# Altium schematic symbol library MCU_ST_STM32F1.SchLib: 178 symbols (part 4 of 5)
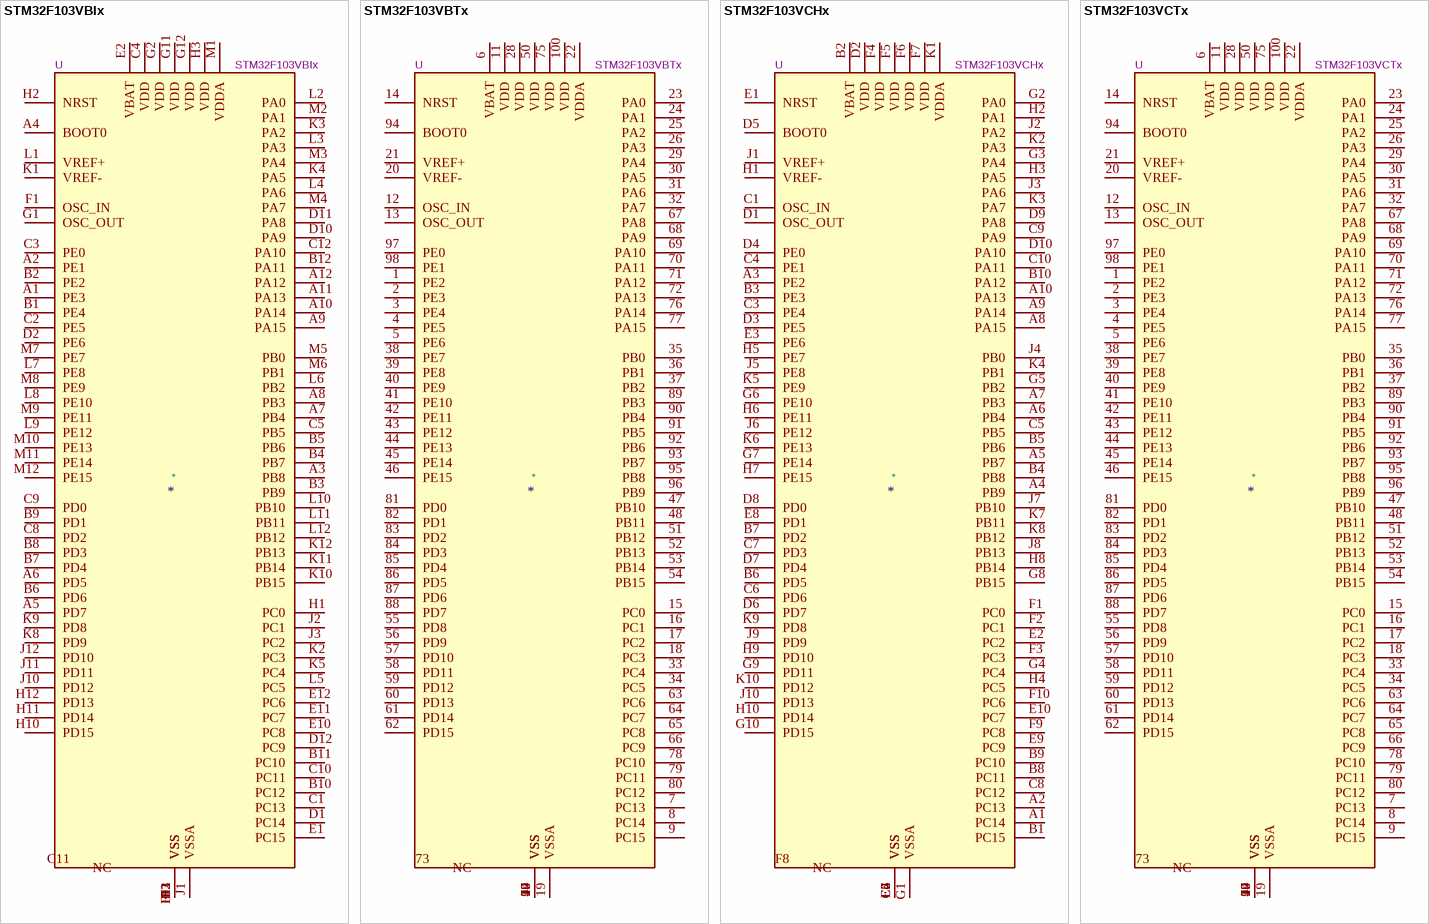
[diagram p33: symbols STM32F103VBIx to STM32F103VCTx]

## STM32F103VBIx
designator *  value STM32F103VBIx  Reference: U
STMicroelectronics Arm Cortex-M3 MCU, 128KB flash, 20KB RAM, 72 MHz, 2.0-3.6V, 80 GPIO, UFBGA100; ki_keywords: Arm Cortex-M3 STM32F1 STM32F103; ki_fp_filters: UFBGA*7x7mm*Layout12x12*P0.5mm*; Footprint: Package_BGA:UFBGA-100_7x7mm_Layout12x12_P0.5mm; Datasheet: https://www.st.com/resource/en/datasheet/stm32f103vb.pdf; Description_: STMicroelectronics Arm Cortex-M3 MCU, 128KB flash, 20KB RAM, 72 MHz, 2.0-3.6V, 80 GPIO, UFBGA100
pins: A1 PE3, A2 PE1, A3 PB8, A4 BOOT0, A5 PD7, A6 PD5, A7 PB4, A8 PB3, A9 PA15, A10 PA14, A11 PA13, A12 PA12, B1 PE4, B2 PE2, B3 PB9, B4 PB7, B5 PB6, B6 PD6, B7 PD4, B8 PD3, B9 PD1, B10 PC12, B11 PC10, B12 PA11, C1 PC13, C2 PE5, C3 PE0, C4 VDD, C5 PB5, C8 PD2, C9 PD0, C10 PC11, C11 NC, C12 PA10, D1 PC14, D2 PE6, D3 VSS, D10 PA9, D11 PA8, D12 PC9, E1 PC15, E2 VBAT, E3 VSS, E10 PC8, E11 PC7, E12 PC6, F1 OSC_IN, F2 VSS, F11 VSS, F12 VSS, G1 OSC_OUT, G2 VDD, G11 VDD, G12 VDD, H1 PC0, H2 NRST, H3 VDD, H10 PD15, H11 PD14, H12 PD13, J1 VSSA, J2 PC1, J3 PC2, J10 PD12, J11 PD11, J12 PD10, K1 VREF-, K2 PC3, K3 PA2, K4 PA5, K5 PC4, K8 PD9, K9 PD8, K10 PB15, K11 PB14, K12 PB13, L1 VREF+, L2 PA0, L3 PA3, L4 PA6, L5 PC5, L6 PB2, L7 PE8, L8 PE10, L9 PE12, L10 PB10, L11 PB11, L12 PB12, M1 VDDA, M2 PA1, M3 PA4, M4 PA7, M5 PB0, M6 PB1, M7 PE7, M8 PE9, M9 PE11, M10 PE13, M11 PE14, M12 PE15

## STM32F103VBTx
designator *  value STM32F103VBTx  Reference: U
STMicroelectronics Arm Cortex-M3 MCU, 128KB flash, 20KB RAM, 72 MHz, 2.0-3.6V, 80 GPIO, LQFP100; ki_keywords: Arm Cortex-M3 STM32F1 STM32F103; ki_fp_filters: LQFP*14x14mm*P0.5mm*; Footprint: Package_QFP:LQFP-100_14x14mm_P0.5mm; Datasheet: https://www.st.com/resource/en/datasheet/stm32f103vb.pdf; Description_: STMicroelectronics Arm Cortex-M3 MCU, 128KB flash, 20KB RAM, 72 MHz, 2.0-3.6V, 80 GPIO, LQFP100
pins: 1 PE2, 2 PE3, 3 PE4, 4 PE5, 5 PE6, 6 VBAT, 7 PC13, 8 PC14, 9 PC15, 10 VSS, 11 VDD, 12 OSC_IN, 13 OSC_OUT, 14 NRST, 15 PC0, 16 PC1, 17 PC2, 18 PC3, 19 VSSA, 20 VREF-, 21 VREF+, 22 VDDA, 23 PA0, 24 PA1, 25 PA2, 26 PA3, 27 VSS, 28 VDD, 29 PA4, 30 PA5, 31 PA6, 32 PA7, 33 PC4, 34 PC5, 35 PB0, 36 PB1, 37 PB2, 38 PE7, 39 PE8, 40 PE9, 41 PE10, 42 PE11, 43 PE12, 44 PE13, 45 PE14, 46 PE15, 47 PB10, 48 PB11, 49 VSS, 50 VDD, 51 PB12, 52 PB13, 53 PB14, 54 PB15, 55 PD8, 56 PD9, 57 PD10, 58 PD11, 59 PD12, 60 PD13, 61 PD14, 62 PD15, 63 PC6, 64 PC7, 65 PC8, 66 PC9, 67 PA8, 68 PA9, 69 PA10, 70 PA11, 71 PA12, 72 PA13, 73 NC, 74 VSS, 75 VDD, 76 PA14, 77 PA15, 78 PC10, 79 PC11, 80 PC12, 81 PD0, 82 PD1, 83 PD2, 84 PD3, 85 PD4, 86 PD5, 87 PD6, 88 PD7, 89 PB3, 90 PB4, 91 PB5, 92 PB6, 93 PB7, 94 BOOT0, 95 PB8, 96 PB9, 97 PE0, 98 PE1, 99 VSS, 100 VDD

## STM32F103VCHx
designator *  value STM32F103VCHx  Reference: U
STMicroelectronics Arm Cortex-M3 MCU, 256KB flash, 48KB RAM, 72 MHz, 2.0-3.6V, 80 GPIO, LFBGA100; ki_keywords: Arm Cortex-M3 STM32F1 STM32F103; ki_fp_filters: LFBGA*10x10mm*Layout10x10*P0.8mm*; Footprint: Package_BGA:LFBGA-100_10x10mm_Layout10x10_P0.8mm; Datasheet: https://www.st.com/resource/en/datasheet/stm32f103vc.pdf; Description_: STMicroelectronics Arm Cortex-M3 MCU, 256KB flash, 48KB RAM, 72 MHz, 2.0-3.6V, 80 GPIO, LFBGA100
pins: A1 PC14, A2 PC13, A3 PE2, A4 PB9, A5 PB7, A6 PB4, A7 PB3, A8 PA15, A9 PA14, A10 PA13, B1 PC15, B2 VBAT, B3 PE3, B4 PB8, B5 PB6, B6 PD5, B7 PD2, B8 PC11, B9 PC10, B10 PA12, C1 OSC_IN, C2 VSS, C3 PE4, C4 PE1, C5 PB5, C6 PD6, C7 PD3, C8 PC12, C9 PA9, C10 PA11, D1 OSC_OUT, D2 VDD, D3 PE5, D4 PE0, D5 BOOT0, D6 PD7, D7 PD4, D8 PD0, D9 PA8, D10 PA10, E1 NRST, E2 PC2, E3 PE6, E4 VSS, E5 VSS, E6 VSS, E7 VSS, E8 PD1, E9 PC9, E10 PC7, F1 PC0, F2 PC1, F3 PC3, F4 VDD, F5 VDD, F6 VDD, F7 VDD, F8 NC, F9 PC8, F10 PC6, G1 VSSA, G2 PA0, G3 PA4, G4 PC4, G5 PB2, G6 PE10, G7 PE14, G8 PB15, G9 PD11, G10 PD15, H1 VREF-, H2 PA1, H3 PA5, H4 PC5, H5 PE7, H6 PE11, H7 PE15, H8 PB14, H9 PD10, H10 PD14, J1 VREF+, J2 PA2, J3 PA6, J4 PB0, J5 PE8, J6 PE12, J7 PB10, J8 PB13, J9 PD9, J10 PD13, K1 VDDA, K2 PA3, K3 PA7, K4 PB1, K5 PE9, K6 PE13, K7 PB11, K8 PB12, K9 PD8, K10 PD12

## STM32F103VCTx
designator *  value STM32F103VCTx  Reference: U
STMicroelectronics Arm Cortex-M3 MCU, 256KB flash, 48KB RAM, 72 MHz, 2.0-3.6V, 80 GPIO, LQFP100; ki_keywords: Arm Cortex-M3 STM32F1 STM32F103; ki_fp_filters: LQFP*14x14mm*P0.5mm*; Footprint: Package_QFP:LQFP-100_14x14mm_P0.5mm; Datasheet: https://www.st.com/resource/en/datasheet/stm32f103vc.pdf; Description_: STMicroelectronics Arm Cortex-M3 MCU, 256KB flash, 48KB RAM, 72 MHz, 2.0-3.6V, 80 GPIO, LQFP100
pins: 1 PE2, 2 PE3, 3 PE4, 4 PE5, 5 PE6, 6 VBAT, 7 PC13, 8 PC14, 9 PC15, 10 VSS, 11 VDD, 12 OSC_IN, 13 OSC_OUT, 14 NRST, 15 PC0, 16 PC1, 17 PC2, 18 PC3, 19 VSSA, 20 VREF-, 21 VREF+, 22 VDDA, 23 PA0, 24 PA1, 25 PA2, 26 PA3, 27 VSS, 28 VDD, 29 PA4, 30 PA5, 31 PA6, 32 PA7, 33 PC4, 34 PC5, 35 PB0, 36 PB1, 37 PB2, 38 PE7, 39 PE8, 40 PE9, 41 PE10, 42 PE11, 43 PE12, 44 PE13, 45 PE14, 46 PE15, 47 PB10, 48 PB11, 49 VSS, 50 VDD, 51 PB12, 52 PB13, 53 PB14, 54 PB15, 55 PD8, 56 PD9, 57 PD10, 58 PD11, 59 PD12, 60 PD13, 61 PD14, 62 PD15, 63 PC6, 64 PC7, 65 PC8, 66 PC9, 67 PA8, 68 PA9, 69 PA10, 70 PA11, 71 PA12, 72 PA13, 73 NC, 74 VSS, 75 VDD, 76 PA14, 77 PA15, 78 PC10, 79 PC11, 80 PC12, 81 PD0, 82 PD1, 83 PD2, 84 PD3, 85 PD4, 86 PD5, 87 PD6, 88 PD7, 89 PB3, 90 PB4, 91 PB5, 92 PB6, 93 PB7, 94 BOOT0, 95 PB8, 96 PB9, 97 PE0, 98 PE1, 99 VSS, 100 VDD

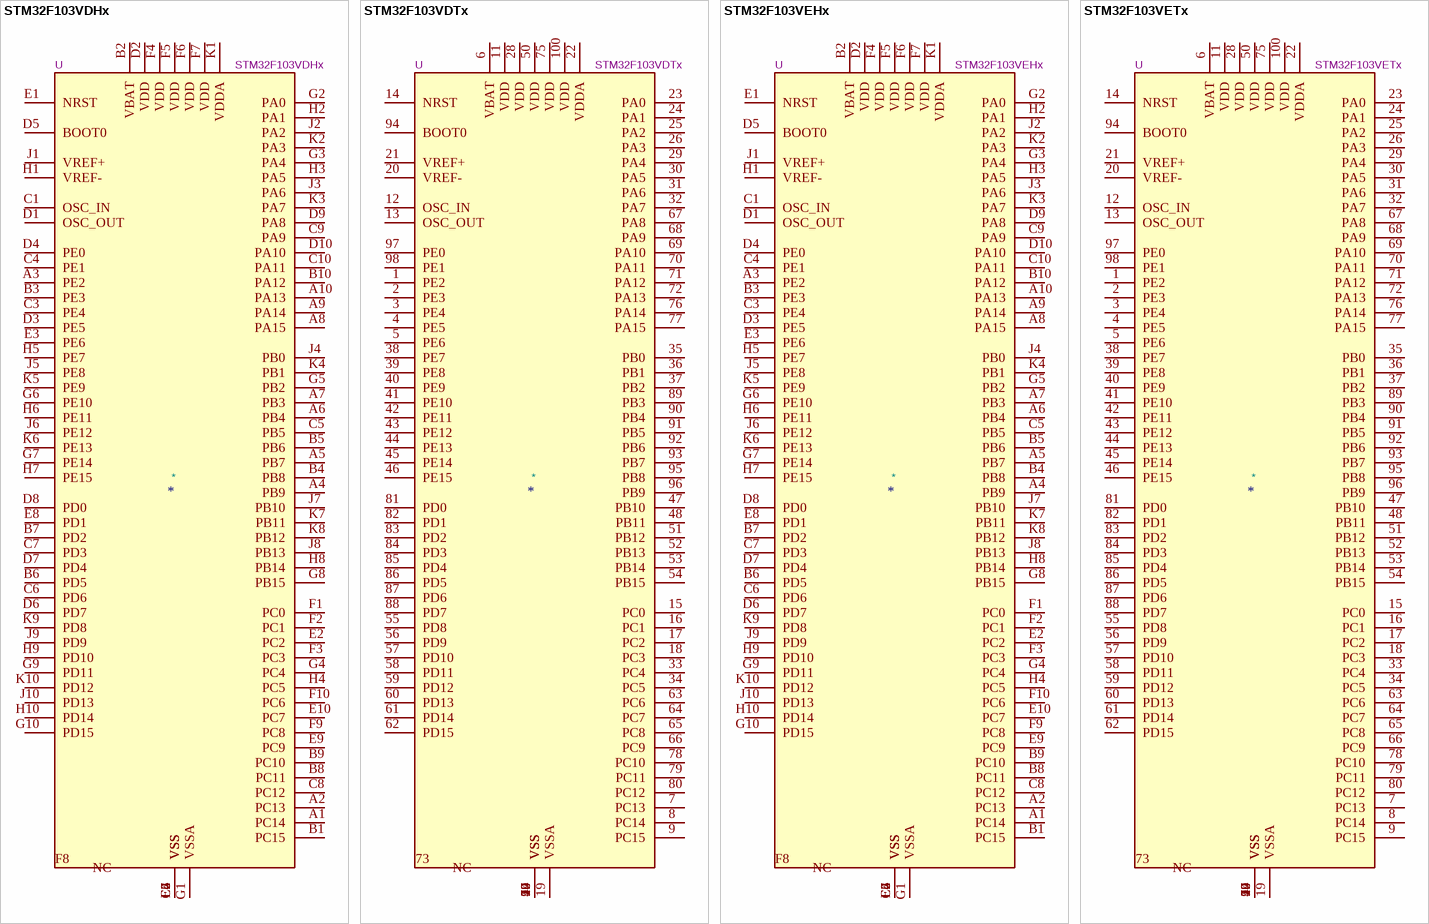
[diagram p21: symbols STM32F103VDHx to STM32F103VETx]

## STM32F103VDHx
designator *  value STM32F103VDHx  Reference: U
STMicroelectronics Arm Cortex-M3 MCU, 384KB flash, 64KB RAM, 72 MHz, 2.0-3.6V, 80 GPIO, LFBGA100; ki_keywords: Arm Cortex-M3 STM32F1 STM32F103; ki_fp_filters: LFBGA*10x10mm*Layout10x10*P0.8mm*; Footprint: Package_BGA:LFBGA-100_10x10mm_Layout10x10_P0.8mm; Datasheet: https://www.st.com/resource/en/datasheet/stm32f103vd.pdf; Description_: STMicroelectronics Arm Cortex-M3 MCU, 384KB flash, 64KB RAM, 72 MHz, 2.0-3.6V, 80 GPIO, LFBGA100
pins: A1 PC14, A2 PC13, A3 PE2, A4 PB9, A5 PB7, A6 PB4, A7 PB3, A8 PA15, A9 PA14, A10 PA13, B1 PC15, B2 VBAT, B3 PE3, B4 PB8, B5 PB6, B6 PD5, B7 PD2, B8 PC11, B9 PC10, B10 PA12, C1 OSC_IN, C2 VSS, C3 PE4, C4 PE1, C5 PB5, C6 PD6, C7 PD3, C8 PC12, C9 PA9, C10 PA11, D1 OSC_OUT, D2 VDD, D3 PE5, D4 PE0, D5 BOOT0, D6 PD7, D7 PD4, D8 PD0, D9 PA8, D10 PA10, E1 NRST, E2 PC2, E3 PE6, E4 VSS, E5 VSS, E6 VSS, E7 VSS, E8 PD1, E9 PC9, E10 PC7, F1 PC0, F2 PC1, F3 PC3, F4 VDD, F5 VDD, F6 VDD, F7 VDD, F8 NC, F9 PC8, F10 PC6, G1 VSSA, G2 PA0, G3 PA4, G4 PC4, G5 PB2, G6 PE10, G7 PE14, G8 PB15, G9 PD11, G10 PD15, H1 VREF-, H2 PA1, H3 PA5, H4 PC5, H5 PE7, H6 PE11, H7 PE15, H8 PB14, H9 PD10, H10 PD14, J1 VREF+, J2 PA2, J3 PA6, J4 PB0, J5 PE8, J6 PE12, J7 PB10, J8 PB13, J9 PD9, J10 PD13, K1 VDDA, K2 PA3, K3 PA7, K4 PB1, K5 PE9, K6 PE13, K7 PB11, K8 PB12, K9 PD8, K10 PD12

## STM32F103VDTx
designator *  value STM32F103VDTx  Reference: U
STMicroelectronics Arm Cortex-M3 MCU, 384KB flash, 64KB RAM, 72 MHz, 2.0-3.6V, 80 GPIO, LQFP100; ki_keywords: Arm Cortex-M3 STM32F1 STM32F103; ki_fp_filters: LQFP*14x14mm*P0.5mm*; Footprint: Package_QFP:LQFP-100_14x14mm_P0.5mm; Datasheet: https://www.st.com/resource/en/datasheet/stm32f103vd.pdf; Description_: STMicroelectronics Arm Cortex-M3 MCU, 384KB flash, 64KB RAM, 72 MHz, 2.0-3.6V, 80 GPIO, LQFP100
pins: 1 PE2, 2 PE3, 3 PE4, 4 PE5, 5 PE6, 6 VBAT, 7 PC13, 8 PC14, 9 PC15, 10 VSS, 11 VDD, 12 OSC_IN, 13 OSC_OUT, 14 NRST, 15 PC0, 16 PC1, 17 PC2, 18 PC3, 19 VSSA, 20 VREF-, 21 VREF+, 22 VDDA, 23 PA0, 24 PA1, 25 PA2, 26 PA3, 27 VSS, 28 VDD, 29 PA4, 30 PA5, 31 PA6, 32 PA7, 33 PC4, 34 PC5, 35 PB0, 36 PB1, 37 PB2, 38 PE7, 39 PE8, 40 PE9, 41 PE10, 42 PE11, 43 PE12, 44 PE13, 45 PE14, 46 PE15, 47 PB10, 48 PB11, 49 VSS, 50 VDD, 51 PB12, 52 PB13, 53 PB14, 54 PB15, 55 PD8, 56 PD9, 57 PD10, 58 PD11, 59 PD12, 60 PD13, 61 PD14, 62 PD15, 63 PC6, 64 PC7, 65 PC8, 66 PC9, 67 PA8, 68 PA9, 69 PA10, 70 PA11, 71 PA12, 72 PA13, 73 NC, 74 VSS, 75 VDD, 76 PA14, 77 PA15, 78 PC10, 79 PC11, 80 PC12, 81 PD0, 82 PD1, 83 PD2, 84 PD3, 85 PD4, 86 PD5, 87 PD6, 88 PD7, 89 PB3, 90 PB4, 91 PB5, 92 PB6, 93 PB7, 94 BOOT0, 95 PB8, 96 PB9, 97 PE0, 98 PE1, 99 VSS, 100 VDD

## STM32F103VEHx
designator *  value STM32F103VEHx  Reference: U
STMicroelectronics Arm Cortex-M3 MCU, 512KB flash, 64KB RAM, 72 MHz, 2.0-3.6V, 80 GPIO, LFBGA100; ki_keywords: Arm Cortex-M3 STM32F1 STM32F103; ki_fp_filters: LFBGA*10x10mm*Layout10x10*P0.8mm*; Footprint: Package_BGA:LFBGA-100_10x10mm_Layout10x10_P0.8mm; Datasheet: https://www.st.com/resource/en/datasheet/stm32f103ve.pdf; Description_: STMicroelectronics Arm Cortex-M3 MCU, 512KB flash, 64KB RAM, 72 MHz, 2.0-3.6V, 80 GPIO, LFBGA100
pins: A1 PC14, A2 PC13, A3 PE2, A4 PB9, A5 PB7, A6 PB4, A7 PB3, A8 PA15, A9 PA14, A10 PA13, B1 PC15, B2 VBAT, B3 PE3, B4 PB8, B5 PB6, B6 PD5, B7 PD2, B8 PC11, B9 PC10, B10 PA12, C1 OSC_IN, C2 VSS, C3 PE4, C4 PE1, C5 PB5, C6 PD6, C7 PD3, C8 PC12, C9 PA9, C10 PA11, D1 OSC_OUT, D2 VDD, D3 PE5, D4 PE0, D5 BOOT0, D6 PD7, D7 PD4, D8 PD0, D9 PA8, D10 PA10, E1 NRST, E2 PC2, E3 PE6, E4 VSS, E5 VSS, E6 VSS, E7 VSS, E8 PD1, E9 PC9, E10 PC7, F1 PC0, F2 PC1, F3 PC3, F4 VDD, F5 VDD, F6 VDD, F7 VDD, F8 NC, F9 PC8, F10 PC6, G1 VSSA, G2 PA0, G3 PA4, G4 PC4, G5 PB2, G6 PE10, G7 PE14, G8 PB15, G9 PD11, G10 PD15, H1 VREF-, H2 PA1, H3 PA5, H4 PC5, H5 PE7, H6 PE11, H7 PE15, H8 PB14, H9 PD10, H10 PD14, J1 VREF+, J2 PA2, J3 PA6, J4 PB0, J5 PE8, J6 PE12, J7 PB10, J8 PB13, J9 PD9, J10 PD13, K1 VDDA, K2 PA3, K3 PA7, K4 PB1, K5 PE9, K6 PE13, K7 PB11, K8 PB12, K9 PD8, K10 PD12

## STM32F103VETx
designator *  value STM32F103VETx  Reference: U
STMicroelectronics Arm Cortex-M3 MCU, 512KB flash, 64KB RAM, 72 MHz, 2.0-3.6V, 80 GPIO, LQFP100; ki_keywords: Arm Cortex-M3 STM32F1 STM32F103; ki_fp_filters: LQFP*14x14mm*P0.5mm*; Footprint: Package_QFP:LQFP-100_14x14mm_P0.5mm; Datasheet: https://www.st.com/resource/en/datasheet/stm32f103ve.pdf; Description_: STMicroelectronics Arm Cortex-M3 MCU, 512KB flash, 64KB RAM, 72 MHz, 2.0-3.6V, 80 GPIO, LQFP100
pins: 1 PE2, 2 PE3, 3 PE4, 4 PE5, 5 PE6, 6 VBAT, 7 PC13, 8 PC14, 9 PC15, 10 VSS, 11 VDD, 12 OSC_IN, 13 OSC_OUT, 14 NRST, 15 PC0, 16 PC1, 17 PC2, 18 PC3, 19 VSSA, 20 VREF-, 21 VREF+, 22 VDDA, 23 PA0, 24 PA1, 25 PA2, 26 PA3, 27 VSS, 28 VDD, 29 PA4, 30 PA5, 31 PA6, 32 PA7, 33 PC4, 34 PC5, 35 PB0, 36 PB1, 37 PB2, 38 PE7, 39 PE8, 40 PE9, 41 PE10, 42 PE11, 43 PE12, 44 PE13, 45 PE14, 46 PE15, 47 PB10, 48 PB11, 49 VSS, 50 VDD, 51 PB12, 52 PB13, 53 PB14, 54 PB15, 55 PD8, 56 PD9, 57 PD10, 58 PD11, 59 PD12, 60 PD13, 61 PD14, 62 PD15, 63 PC6, 64 PC7, 65 PC8, 66 PC9, 67 PA8, 68 PA9, 69 PA10, 70 PA11, 71 PA12, 72 PA13, 73 NC, 74 VSS, 75 VDD, 76 PA14, 77 PA15, 78 PC10, 79 PC11, 80 PC12, 81 PD0, 82 PD1, 83 PD2, 84 PD3, 85 PD4, 86 PD5, 87 PD6, 88 PD7, 89 PB3, 90 PB4, 91 PB5, 92 PB6, 93 PB7, 94 BOOT0, 95 PB8, 96 PB9, 97 PE0, 98 PE1, 99 VSS, 100 VDD

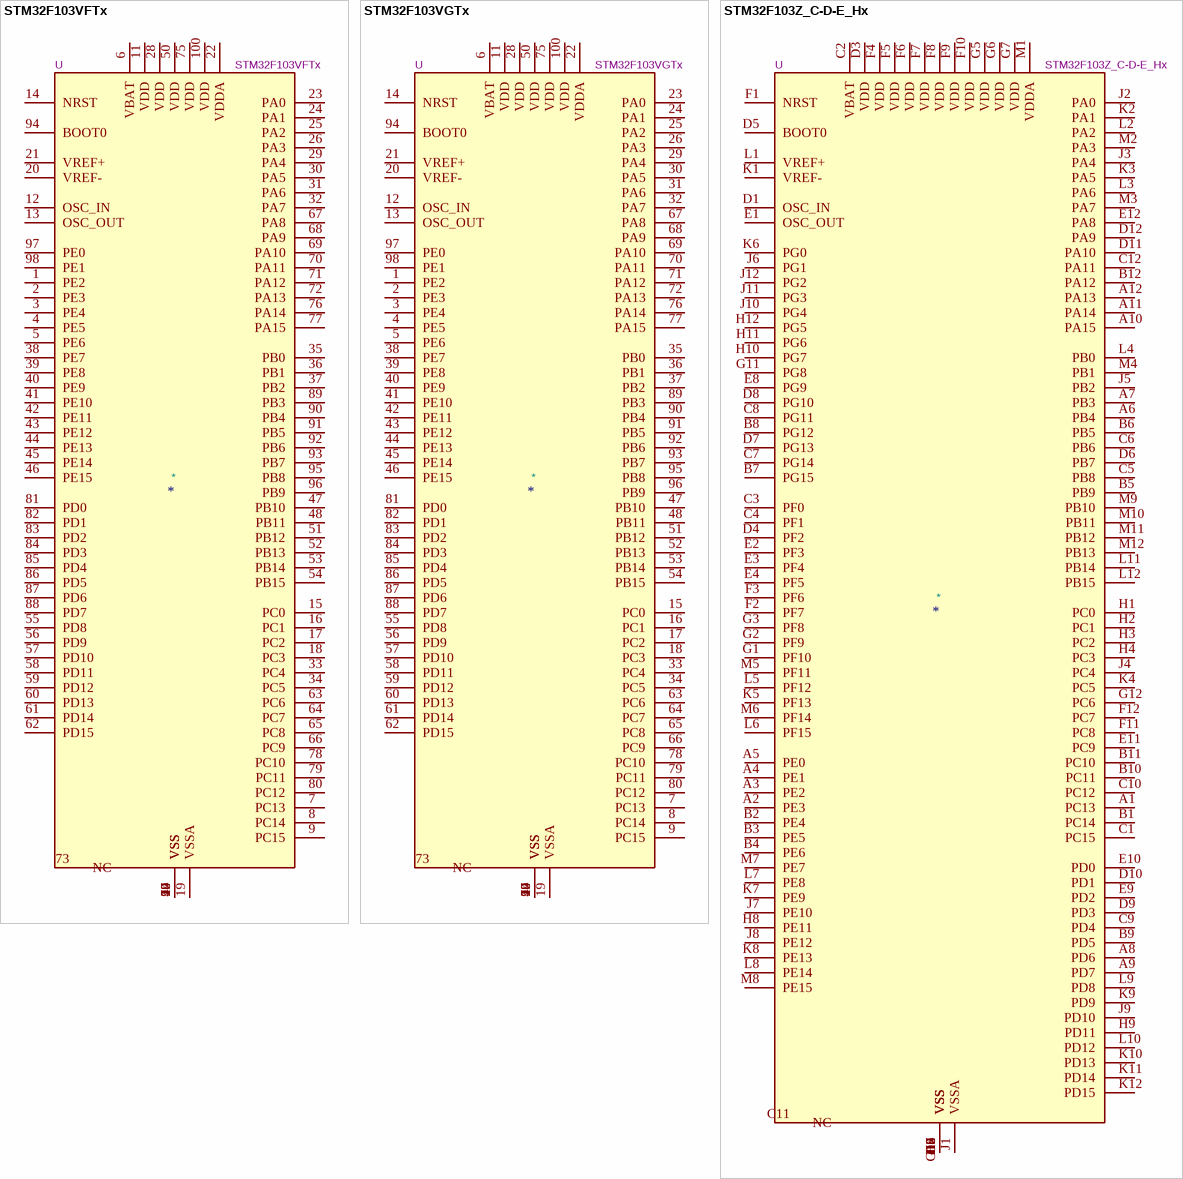
[diagram p22: symbols STM32F103VFTx to STM32F103Z_C-D-E_Hx]

## STM32F103VFTx
designator *  value STM32F103VFTx  Reference: U
STMicroelectronics Arm Cortex-M3 MCU, 768KB flash, 96KB RAM, 72 MHz, 2.0-3.6V, 80 GPIO, LQFP100; ki_keywords: Arm Cortex-M3 STM32F1 STM32F103; ki_fp_filters: LQFP*14x14mm*P0.5mm*; Footprint: Package_QFP:LQFP-100_14x14mm_P0.5mm; Datasheet: https://www.st.com/resource/en/datasheet/stm32f103vf.pdf; Description_: STMicroelectronics Arm Cortex-M3 MCU, 768KB flash, 96KB RAM, 72 MHz, 2.0-3.6V, 80 GPIO, LQFP100
pins: 1 PE2, 2 PE3, 3 PE4, 4 PE5, 5 PE6, 6 VBAT, 7 PC13, 8 PC14, 9 PC15, 10 VSS, 11 VDD, 12 OSC_IN, 13 OSC_OUT, 14 NRST, 15 PC0, 16 PC1, 17 PC2, 18 PC3, 19 VSSA, 20 VREF-, 21 VREF+, 22 VDDA, 23 PA0, 24 PA1, 25 PA2, 26 PA3, 27 VSS, 28 VDD, 29 PA4, 30 PA5, 31 PA6, 32 PA7, 33 PC4, 34 PC5, 35 PB0, 36 PB1, 37 PB2, 38 PE7, 39 PE8, 40 PE9, 41 PE10, 42 PE11, 43 PE12, 44 PE13, 45 PE14, 46 PE15, 47 PB10, 48 PB11, 49 VSS, 50 VDD, 51 PB12, 52 PB13, 53 PB14, 54 PB15, 55 PD8, 56 PD9, 57 PD10, 58 PD11, 59 PD12, 60 PD13, 61 PD14, 62 PD15, 63 PC6, 64 PC7, 65 PC8, 66 PC9, 67 PA8, 68 PA9, 69 PA10, 70 PA11, 71 PA12, 72 PA13, 73 NC, 74 VSS, 75 VDD, 76 PA14, 77 PA15, 78 PC10, 79 PC11, 80 PC12, 81 PD0, 82 PD1, 83 PD2, 84 PD3, 85 PD4, 86 PD5, 87 PD6, 88 PD7, 89 PB3, 90 PB4, 91 PB5, 92 PB6, 93 PB7, 94 BOOT0, 95 PB8, 96 PB9, 97 PE0, 98 PE1, 99 VSS, 100 VDD

## STM32F103VGTx
designator *  value STM32F103VGTx  Reference: U
STMicroelectronics Arm Cortex-M3 MCU, 1024KB flash, 96KB RAM, 72 MHz, 2.0-3.6V, 80 GPIO, LQFP100; ki_keywords: Arm Cortex-M3 STM32F1 STM32F103; ki_fp_filters: LQFP*14x14mm*P0.5mm*; Footprint: Package_QFP:LQFP-100_14x14mm_P0.5mm; Datasheet: https://www.st.com/resource/en/datasheet/stm32f103vg.pdf; Description_: STMicroelectronics Arm Cortex-M3 MCU, 1024KB flash, 96KB RAM, 72 MHz, 2.0-3.6V, 80 GPIO, LQFP100
pins: 1 PE2, 2 PE3, 3 PE4, 4 PE5, 5 PE6, 6 VBAT, 7 PC13, 8 PC14, 9 PC15, 10 VSS, 11 VDD, 12 OSC_IN, 13 OSC_OUT, 14 NRST, 15 PC0, 16 PC1, 17 PC2, 18 PC3, 19 VSSA, 20 VREF-, 21 VREF+, 22 VDDA, 23 PA0, 24 PA1, 25 PA2, 26 PA3, 27 VSS, 28 VDD, 29 PA4, 30 PA5, 31 PA6, 32 PA7, 33 PC4, 34 PC5, 35 PB0, 36 PB1, 37 PB2, 38 PE7, 39 PE8, 40 PE9, 41 PE10, 42 PE11, 43 PE12, 44 PE13, 45 PE14, 46 PE15, 47 PB10, 48 PB11, 49 VSS, 50 VDD, 51 PB12, 52 PB13, 53 PB14, 54 PB15, 55 PD8, 56 PD9, 57 PD10, 58 PD11, 59 PD12, 60 PD13, 61 PD14, 62 PD15, 63 PC6, 64 PC7, 65 PC8, 66 PC9, 67 PA8, 68 PA9, 69 PA10, 70 PA11, 71 PA12, 72 PA13, 73 NC, 74 VSS, 75 VDD, 76 PA14, 77 PA15, 78 PC10, 79 PC11, 80 PC12, 81 PD0, 82 PD1, 83 PD2, 84 PD3, 85 PD4, 86 PD5, 87 PD6, 88 PD7, 89 PB3, 90 PB4, 91 PB5, 92 PB6, 93 PB7, 94 BOOT0, 95 PB8, 96 PB9, 97 PE0, 98 PE1, 99 VSS, 100 VDD

## STM32F103Z_C-D-E_Hx
designator *  value STM32F103Z_C-D-E_Hx  Reference: U
STMicroelectronics Arm Cortex-M3 MCU, 256-512KB flash, 48-64KB RAM, 72 MHz, 2.0-3.6V, 112 GPIO, LFBGA144; ki_keywords: Arm Cortex-M3 STM32F1 STM32F103; ki_fp_filters: LFBGA*10x10mm*Layout12x12*P0.8mm*; Footprint: Package_BGA:LFBGA-144_10x10mm_Layout12x12_P0.8mm; Datasheet: https://www.st.com/resource/en/datasheet/stm32f103zc.pdf; Description_: STMicroelectronics Arm Cortex-M3 MCU, 256-512KB flash, 48-64KB RAM, 72 MHz, 2.0-3.6V, 112 GPIO, LFBGA144
pins: A1 PC13, A2 PE3, A3 PE2, A4 PE1, A5 PE0, A6 PB4, A7 PB3, A8 PD6, A9 PD7, A10 PA15, A11 PA14, A12 PA13, B1 PC14, B2 PE4, B3 PE5, B4 PE6, B5 PB9, B6 PB5, B7 PG15, B8 PG12, B9 PD5, B10 PC11, B11 PC10, B12 PA12, C1 PC15, C2 VBAT, C3 PF0, C4 PF1, C5 PB8, C6 PB6, C7 PG14, C8 PG11, C9 PD4, C10 PC12, C11 NC, C12 PA11, D1 OSC_IN, D2 VSS, D3 VDD, D4 PF2, D5 BOOT0, D6 PB7, D7 PG13, D8 PG10, D9 PD3, D10 PD1, D11 PA10, D12 PA9, E1 OSC_OUT, E2 PF3, E3 PF4, E4 PF5, E5 VSS, E6 VSS, E7 VSS, E8 PG9, E9 PD2, E10 PD0, E11 PC9, E12 PA8, F1 NRST, F2 PF7, F3 PF6, F4 VDD, F5 VDD, F6 VDD, F7 VDD, F8 VDD, F9 VDD, F10 VDD, F11 PC8, F12 PC7, G1 PF10, G2 PF9, G3 PF8, G4 VSS, G5 VDD, G6 VDD, G7 VDD, G8 VSS, G9 VSS, G10 VSS, G11 PG8, G12 PC6, H1 PC0, H2 PC1, H3 PC2, H4 PC3, H5 VSS, H6 VSS, H7 VSS, H8 PE11, H9 PD11, H10 PG7, H11 PG6, H12 PG5, J1 VSSA, J2 PA0, J3 PA4, J4 PC4, J5 PB2, J6 PG1, J7 PE10, J8 PE12, J9 PD10, J10 PG4, J11 PG3, J12 PG2, K1 VREF-, K2 PA1, K3 PA5, K4 PC5, K5 PF13, K6 PG0, K7 PE9, K8 PE13, K9 PD9, K10 PD13, K11 PD14, K12 PD15, L1 VREF+, L2 PA2, L3 PA6, L4 PB0, L5 PF12, L6 PF15, L7 PE8, L8 PE14, L9 PD8, L10 PD12, L11 PB14, L12 PB15, M1 VDDA, M2 PA3, M3 PA7, M4 PB1, M5 PF11, M6 PF14, M7 PE7, M8 PE15, M9 PB10, M10 PB11, M11 PB12, M12 PB13

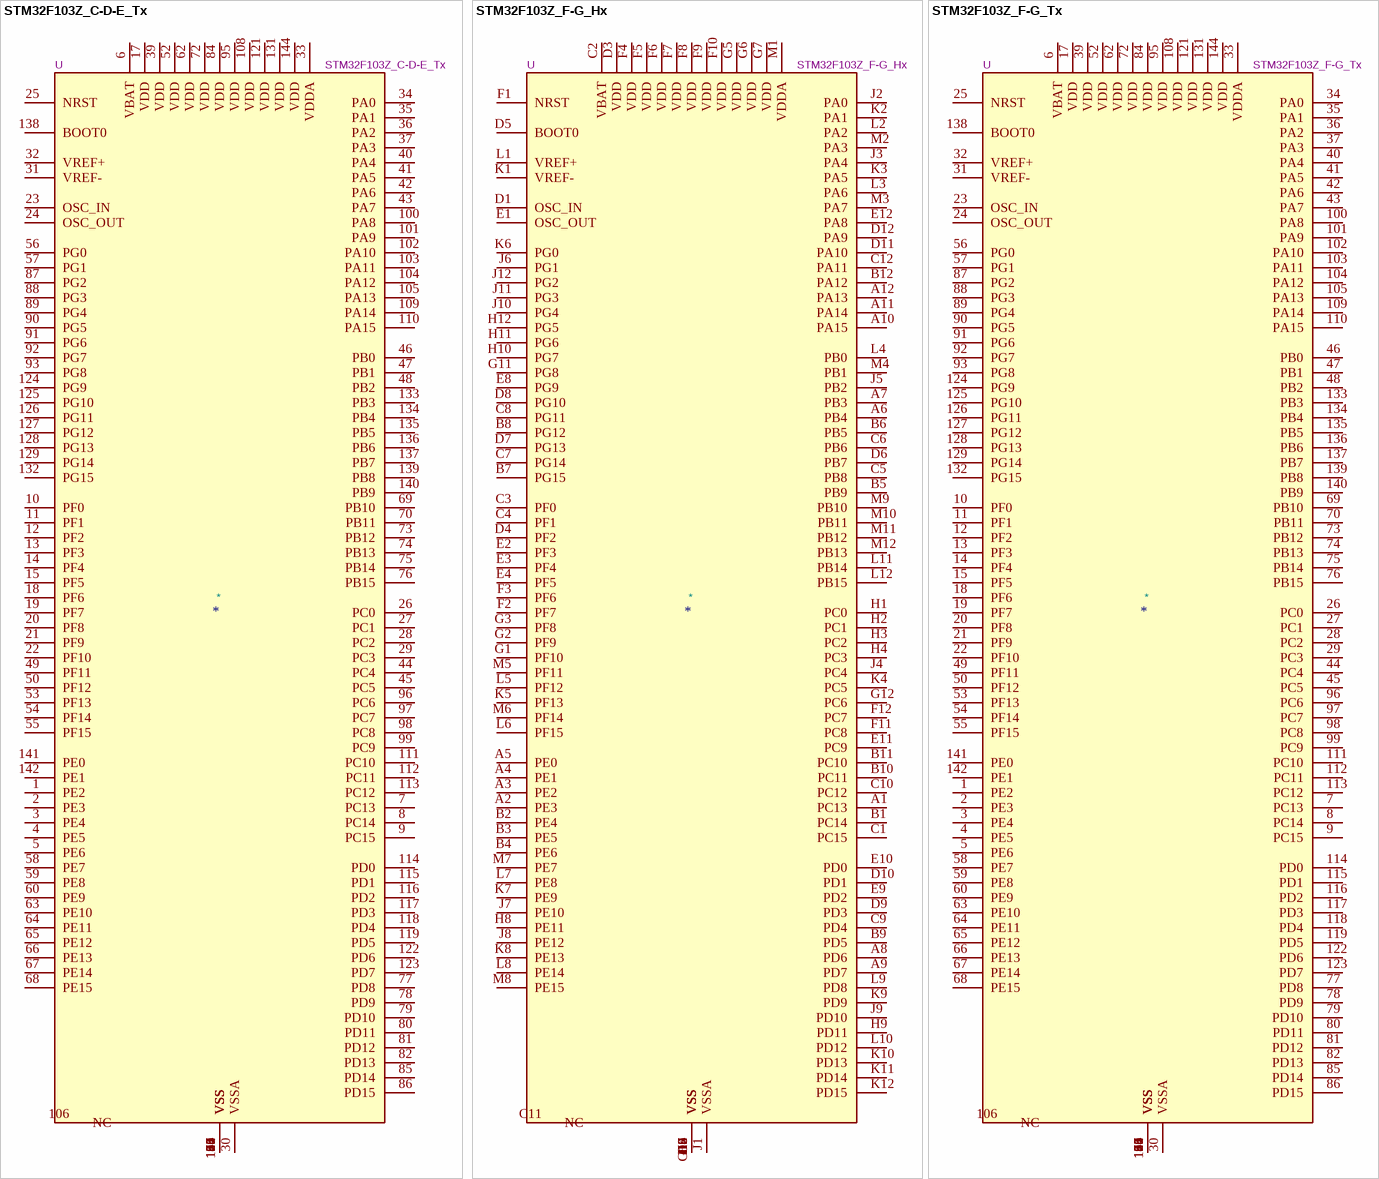
[diagram p23: symbols STM32F103Z_C-D-E_Tx to STM32F103Z_F-G_Tx]

## STM32F103Z_C-D-E_Tx
designator *  value STM32F103Z_C-D-E_Tx  Reference: U
STMicroelectronics Arm Cortex-M3 MCU, 256-512KB flash, 48-64KB RAM, 72 MHz, 2.0-3.6V, 112 GPIO, LQFP144; ki_keywords: Arm Cortex-M3 STM32F1 STM32F103; ki_fp_filters: LQFP*20x20mm*P0.5mm*; Footprint: Package_QFP:LQFP-144_20x20mm_P0.5mm; Datasheet: https://www.st.com/resource/en/datasheet/stm32f103zc.pdf; Description_: STMicroelectronics Arm Cortex-M3 MCU, 256-512KB flash, 48-64KB RAM, 72 MHz, 2.0-3.6V, 112 GPIO, LQFP144
pins: 1 PE2, 2 PE3, 3 PE4, 4 PE5, 5 PE6, 6 VBAT, 7 PC13, 8 PC14, 9 PC15, 10 PF0, 11 PF1, 12 PF2, 13 PF3, 14 PF4, 15 PF5, 16 VSS, 17 VDD, 18 PF6, 19 PF7, 20 PF8, 21 PF9, 22 PF10, 23 OSC_IN, 24 OSC_OUT, 25 NRST, 26 PC0, 27 PC1, 28 PC2, 29 PC3, 30 VSSA, 31 VREF-, 32 VREF+, 33 VDDA, 34 PA0, 35 PA1, 36 PA2, 37 PA3, 38 VSS, 39 VDD, 40 PA4, 41 PA5, 42 PA6, 43 PA7, 44 PC4, 45 PC5, 46 PB0, 47 PB1, 48 PB2, 49 PF11, 50 PF12, 51 VSS, 52 VDD, 53 PF13, 54 PF14, 55 PF15, 56 PG0, 57 PG1, 58 PE7, 59 PE8, 60 PE9, 61 VSS, 62 VDD, 63 PE10, 64 PE11, 65 PE12, 66 PE13, 67 PE14, 68 PE15, 69 PB10, 70 PB11, 71 VSS, 72 VDD, 73 PB12, 74 PB13, 75 PB14, 76 PB15, 77 PD8, 78 PD9, 79 PD10, 80 PD11, 81 PD12, 82 PD13, 83 VSS, 84 VDD, 85 PD14, 86 PD15, 87 PG2, 88 PG3, 89 PG4, 90 PG5, 91 PG6, 92 PG7, 93 PG8, 94 VSS, 95 VDD, 96 PC6, 97 PC7, 98 PC8, 99 PC9, 100 PA8, 101 PA9, 102 PA10, 103 PA11, 104 PA12, 105 PA13, 106 NC, 107 VSS, 108 VDD, 109 PA14, 110 PA15, 111 PC10, 112 PC11, 113 PC12, 114 PD0, 115 PD1, 116 PD2, 117 PD3, 118 PD4, 119 PD5, 120 VSS, 121 VDD, 122 PD6, 123 PD7, 124 PG9, 125 PG10, 126 PG11, 127 PG12, 128 PG13, 129 PG14, 130 VSS, 131 VDD, 132 PG15, 133 PB3, 134 PB4, 135 PB5, 136 PB6, 137 PB7, 138 BOOT0, 139 PB8, 140 PB9, 141 PE0, 142 PE1, 143 VSS, 144 VDD

## STM32F103Z_F-G_Hx
designator *  value STM32F103Z_F-G_Hx  Reference: U
STMicroelectronics Arm Cortex-M3 MCU, 768-1024KB flash, 96KB RAM, 72 MHz, 2.0-3.6V, 112 GPIO, LFBGA144; ki_keywords: Arm Cortex-M3 STM32F1 STM32F103; ki_fp_filters: LFBGA*10x10mm*Layout12x12*P0.8mm*; Footprint: Package_BGA:LFBGA-144_10x10mm_Layout12x12_P0.8mm; Datasheet: https://www.st.com/resource/en/datasheet/stm32f103zf.pdf; Description_: STMicroelectronics Arm Cortex-M3 MCU, 768-1024KB flash, 96KB RAM, 72 MHz, 2.0-3.6V, 112 GPIO, LFBGA144
pins: A1 PC13, A2 PE3, A3 PE2, A4 PE1, A5 PE0, A6 PB4, A7 PB3, A8 PD6, A9 PD7, A10 PA15, A11 PA14, A12 PA13, B1 PC14, B2 PE4, B3 PE5, B4 PE6, B5 PB9, B6 PB5, B7 PG15, B8 PG12, B9 PD5, B10 PC11, B11 PC10, B12 PA12, C1 PC15, C2 VBAT, C3 PF0, C4 PF1, C5 PB8, C6 PB6, C7 PG14, C8 PG11, C9 PD4, C10 PC12, C11 NC, C12 PA11, D1 OSC_IN, D2 VSS, D3 VDD, D4 PF2, D5 BOOT0, D6 PB7, D7 PG13, D8 PG10, D9 PD3, D10 PD1, D11 PA10, D12 PA9, E1 OSC_OUT, E2 PF3, E3 PF4, E4 PF5, E5 VSS, E6 VSS, E7 VSS, E8 PG9, E9 PD2, E10 PD0, E11 PC9, E12 PA8, F1 NRST, F2 PF7, F3 PF6, F4 VDD, F5 VDD, F6 VDD, F7 VDD, F8 VDD, F9 VDD, F10 VDD, F11 PC8, F12 PC7, G1 PF10, G2 PF9, G3 PF8, G4 VSS, G5 VDD, G6 VDD, G7 VDD, G8 VSS, G9 VSS, G10 VSS, G11 PG8, G12 PC6, H1 PC0, H2 PC1, H3 PC2, H4 PC3, H5 VSS, H6 VSS, H7 VSS, H8 PE11, H9 PD11, H10 PG7, H11 PG6, H12 PG5, J1 VSSA, J2 PA0, J3 PA4, J4 PC4, J5 PB2, J6 PG1, J7 PE10, J8 PE12, J9 PD10, J10 PG4, J11 PG3, J12 PG2, K1 VREF-, K2 PA1, K3 PA5, K4 PC5, K5 PF13, K6 PG0, K7 PE9, K8 PE13, K9 PD9, K10 PD13, K11 PD14, K12 PD15, L1 VREF+, L2 PA2, L3 PA6, L4 PB0, L5 PF12, L6 PF15, L7 PE8, L8 PE14, L9 PD8, L10 PD12, L11 PB14, L12 PB15, M1 VDDA, M2 PA3, M3 PA7, M4 PB1, M5 PF11, M6 PF14, M7 PE7, M8 PE15, M9 PB10, M10 PB11, M11 PB12, M12 PB13

## STM32F103Z_F-G_Tx
designator *  value STM32F103Z_F-G_Tx  Reference: U
STMicroelectronics Arm Cortex-M3 MCU, 768-1024KB flash, 96KB RAM, 72 MHz, 2.0-3.6V, 112 GPIO, LQFP144; ki_keywords: Arm Cortex-M3 STM32F1 STM32F103; ki_fp_filters: LQFP*20x20mm*P0.5mm*; Footprint: Package_QFP:LQFP-144_20x20mm_P0.5mm; Datasheet: https://www.st.com/resource/en/datasheet/stm32f103zf.pdf; Description_: STMicroelectronics Arm Cortex-M3 MCU, 768-1024KB flash, 96KB RAM, 72 MHz, 2.0-3.6V, 112 GPIO, LQFP144
pins: 1 PE2, 2 PE3, 3 PE4, 4 PE5, 5 PE6, 6 VBAT, 7 PC13, 8 PC14, 9 PC15, 10 PF0, 11 PF1, 12 PF2, 13 PF3, 14 PF4, 15 PF5, 16 VSS, 17 VDD, 18 PF6, 19 PF7, 20 PF8, 21 PF9, 22 PF10, 23 OSC_IN, 24 OSC_OUT, 25 NRST, 26 PC0, 27 PC1, 28 PC2, 29 PC3, 30 VSSA, 31 VREF-, 32 VREF+, 33 VDDA, 34 PA0, 35 PA1, 36 PA2, 37 PA3, 38 VSS, 39 VDD, 40 PA4, 41 PA5, 42 PA6, 43 PA7, 44 PC4, 45 PC5, 46 PB0, 47 PB1, 48 PB2, 49 PF11, 50 PF12, 51 VSS, 52 VDD, 53 PF13, 54 PF14, 55 PF15, 56 PG0, 57 PG1, 58 PE7, 59 PE8, 60 PE9, 61 VSS, 62 VDD, 63 PE10, 64 PE11, 65 PE12, 66 PE13, 67 PE14, 68 PE15, 69 PB10, 70 PB11, 71 VSS, 72 VDD, 73 PB12, 74 PB13, 75 PB14, 76 PB15, 77 PD8, 78 PD9, 79 PD10, 80 PD11, 81 PD12, 82 PD13, 83 VSS, 84 VDD, 85 PD14, 86 PD15, 87 PG2, 88 PG3, 89 PG4, 90 PG5, 91 PG6, 92 PG7, 93 PG8, 94 VSS, 95 VDD, 96 PC6, 97 PC7, 98 PC8, 99 PC9, 100 PA8, 101 PA9, 102 PA10, 103 PA11, 104 PA12, 105 PA13, 106 NC, 107 VSS, 108 VDD, 109 PA14, 110 PA15, 111 PC10, 112 PC11, 113 PC12, 114 PD0, 115 PD1, 116 PD2, 117 PD3, 118 PD4, 119 PD5, 120 VSS, 121 VDD, 122 PD6, 123 PD7, 124 PG9, 125 PG10, 126 PG11, 127 PG12, 128 PG13, 129 PG14, 130 VSS, 131 VDD, 132 PG15, 133 PB3, 134 PB4, 135 PB5, 136 PB6, 137 PB7, 138 BOOT0, 139 PB8, 140 PB9, 141 PE0, 142 PE1, 143 VSS, 144 VDD

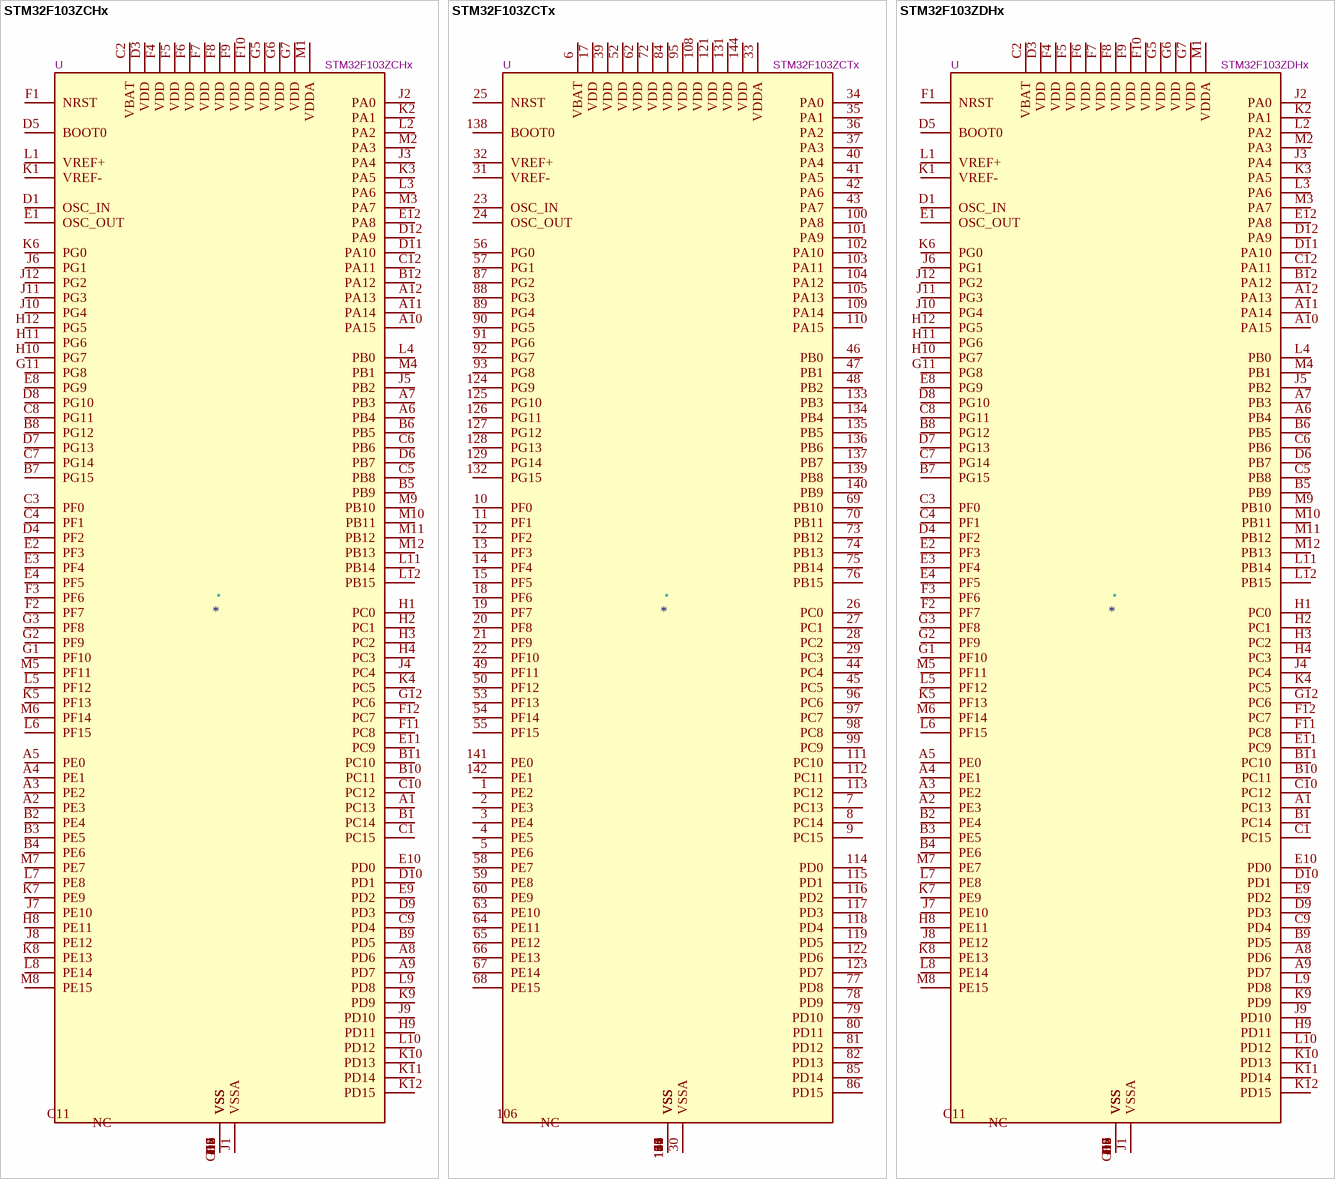
[diagram p24: symbols STM32F103ZCHx to STM32F103ZDHx]

## STM32F103ZCHx
designator *  value STM32F103ZCHx  Reference: U
STMicroelectronics Arm Cortex-M3 MCU, 256KB flash, 48KB RAM, 72 MHz, 2.0-3.6V, 112 GPIO, LFBGA144; ki_keywords: Arm Cortex-M3 STM32F1 STM32F103; ki_fp_filters: LFBGA*10x10mm*Layout12x12*P0.8mm*; Footprint: Package_BGA:LFBGA-144_10x10mm_Layout12x12_P0.8mm; Datasheet: https://www.st.com/resource/en/datasheet/stm32f103zc.pdf; Description_: STMicroelectronics Arm Cortex-M3 MCU, 256KB flash, 48KB RAM, 72 MHz, 2.0-3.6V, 112 GPIO, LFBGA144
pins: A1 PC13, A2 PE3, A3 PE2, A4 PE1, A5 PE0, A6 PB4, A7 PB3, A8 PD6, A9 PD7, A10 PA15, A11 PA14, A12 PA13, B1 PC14, B2 PE4, B3 PE5, B4 PE6, B5 PB9, B6 PB5, B7 PG15, B8 PG12, B9 PD5, B10 PC11, B11 PC10, B12 PA12, C1 PC15, C2 VBAT, C3 PF0, C4 PF1, C5 PB8, C6 PB6, C7 PG14, C8 PG11, C9 PD4, C10 PC12, C11 NC, C12 PA11, D1 OSC_IN, D2 VSS, D3 VDD, D4 PF2, D5 BOOT0, D6 PB7, D7 PG13, D8 PG10, D9 PD3, D10 PD1, D11 PA10, D12 PA9, E1 OSC_OUT, E2 PF3, E3 PF4, E4 PF5, E5 VSS, E6 VSS, E7 VSS, E8 PG9, E9 PD2, E10 PD0, E11 PC9, E12 PA8, F1 NRST, F2 PF7, F3 PF6, F4 VDD, F5 VDD, F6 VDD, F7 VDD, F8 VDD, F9 VDD, F10 VDD, F11 PC8, F12 PC7, G1 PF10, G2 PF9, G3 PF8, G4 VSS, G5 VDD, G6 VDD, G7 VDD, G8 VSS, G9 VSS, G10 VSS, G11 PG8, G12 PC6, H1 PC0, H2 PC1, H3 PC2, H4 PC3, H5 VSS, H6 VSS, H7 VSS, H8 PE11, H9 PD11, H10 PG7, H11 PG6, H12 PG5, J1 VSSA, J2 PA0, J3 PA4, J4 PC4, J5 PB2, J6 PG1, J7 PE10, J8 PE12, J9 PD10, J10 PG4, J11 PG3, J12 PG2, K1 VREF-, K2 PA1, K3 PA5, K4 PC5, K5 PF13, K6 PG0, K7 PE9, K8 PE13, K9 PD9, K10 PD13, K11 PD14, K12 PD15, L1 VREF+, L2 PA2, L3 PA6, L4 PB0, L5 PF12, L6 PF15, L7 PE8, L8 PE14, L9 PD8, L10 PD12, L11 PB14, L12 PB15, M1 VDDA, M2 PA3, M3 PA7, M4 PB1, M5 PF11, M6 PF14, M7 PE7, M8 PE15, M9 PB10, M10 PB11, M11 PB12, M12 PB13

## STM32F103ZCTx
designator *  value STM32F103ZCTx  Reference: U
STMicroelectronics Arm Cortex-M3 MCU, 256KB flash, 48KB RAM, 72 MHz, 2.0-3.6V, 112 GPIO, LQFP144; ki_keywords: Arm Cortex-M3 STM32F1 STM32F103; ki_fp_filters: LQFP*20x20mm*P0.5mm*; Footprint: Package_QFP:LQFP-144_20x20mm_P0.5mm; Datasheet: https://www.st.com/resource/en/datasheet/stm32f103zc.pdf; Description_: STMicroelectronics Arm Cortex-M3 MCU, 256KB flash, 48KB RAM, 72 MHz, 2.0-3.6V, 112 GPIO, LQFP144
pins: 1 PE2, 2 PE3, 3 PE4, 4 PE5, 5 PE6, 6 VBAT, 7 PC13, 8 PC14, 9 PC15, 10 PF0, 11 PF1, 12 PF2, 13 PF3, 14 PF4, 15 PF5, 16 VSS, 17 VDD, 18 PF6, 19 PF7, 20 PF8, 21 PF9, 22 PF10, 23 OSC_IN, 24 OSC_OUT, 25 NRST, 26 PC0, 27 PC1, 28 PC2, 29 PC3, 30 VSSA, 31 VREF-, 32 VREF+, 33 VDDA, 34 PA0, 35 PA1, 36 PA2, 37 PA3, 38 VSS, 39 VDD, 40 PA4, 41 PA5, 42 PA6, 43 PA7, 44 PC4, 45 PC5, 46 PB0, 47 PB1, 48 PB2, 49 PF11, 50 PF12, 51 VSS, 52 VDD, 53 PF13, 54 PF14, 55 PF15, 56 PG0, 57 PG1, 58 PE7, 59 PE8, 60 PE9, 61 VSS, 62 VDD, 63 PE10, 64 PE11, 65 PE12, 66 PE13, 67 PE14, 68 PE15, 69 PB10, 70 PB11, 71 VSS, 72 VDD, 73 PB12, 74 PB13, 75 PB14, 76 PB15, 77 PD8, 78 PD9, 79 PD10, 80 PD11, 81 PD12, 82 PD13, 83 VSS, 84 VDD, 85 PD14, 86 PD15, 87 PG2, 88 PG3, 89 PG4, 90 PG5, 91 PG6, 92 PG7, 93 PG8, 94 VSS, 95 VDD, 96 PC6, 97 PC7, 98 PC8, 99 PC9, 100 PA8, 101 PA9, 102 PA10, 103 PA11, 104 PA12, 105 PA13, 106 NC, 107 VSS, 108 VDD, 109 PA14, 110 PA15, 111 PC10, 112 PC11, 113 PC12, 114 PD0, 115 PD1, 116 PD2, 117 PD3, 118 PD4, 119 PD5, 120 VSS, 121 VDD, 122 PD6, 123 PD7, 124 PG9, 125 PG10, 126 PG11, 127 PG12, 128 PG13, 129 PG14, 130 VSS, 131 VDD, 132 PG15, 133 PB3, 134 PB4, 135 PB5, 136 PB6, 137 PB7, 138 BOOT0, 139 PB8, 140 PB9, 141 PE0, 142 PE1, 143 VSS, 144 VDD

## STM32F103ZDHx
designator *  value STM32F103ZDHx  Reference: U
STMicroelectronics Arm Cortex-M3 MCU, 384KB flash, 64KB RAM, 72 MHz, 2.0-3.6V, 112 GPIO, LFBGA144; ki_keywords: Arm Cortex-M3 STM32F1 STM32F103; ki_fp_filters: LFBGA*10x10mm*Layout12x12*P0.8mm*; Footprint: Package_BGA:LFBGA-144_10x10mm_Layout12x12_P0.8mm; Datasheet: https://www.st.com/resource/en/datasheet/stm32f103zd.pdf; Description_: STMicroelectronics Arm Cortex-M3 MCU, 384KB flash, 64KB RAM, 72 MHz, 2.0-3.6V, 112 GPIO, LFBGA144
pins: A1 PC13, A2 PE3, A3 PE2, A4 PE1, A5 PE0, A6 PB4, A7 PB3, A8 PD6, A9 PD7, A10 PA15, A11 PA14, A12 PA13, B1 PC14, B2 PE4, B3 PE5, B4 PE6, B5 PB9, B6 PB5, B7 PG15, B8 PG12, B9 PD5, B10 PC11, B11 PC10, B12 PA12, C1 PC15, C2 VBAT, C3 PF0, C4 PF1, C5 PB8, C6 PB6, C7 PG14, C8 PG11, C9 PD4, C10 PC12, C11 NC, C12 PA11, D1 OSC_IN, D2 VSS, D3 VDD, D4 PF2, D5 BOOT0, D6 PB7, D7 PG13, D8 PG10, D9 PD3, D10 PD1, D11 PA10, D12 PA9, E1 OSC_OUT, E2 PF3, E3 PF4, E4 PF5, E5 VSS, E6 VSS, E7 VSS, E8 PG9, E9 PD2, E10 PD0, E11 PC9, E12 PA8, F1 NRST, F2 PF7, F3 PF6, F4 VDD, F5 VDD, F6 VDD, F7 VDD, F8 VDD, F9 VDD, F10 VDD, F11 PC8, F12 PC7, G1 PF10, G2 PF9, G3 PF8, G4 VSS, G5 VDD, G6 VDD, G7 VDD, G8 VSS, G9 VSS, G10 VSS, G11 PG8, G12 PC6, H1 PC0, H2 PC1, H3 PC2, H4 PC3, H5 VSS, H6 VSS, H7 VSS, H8 PE11, H9 PD11, H10 PG7, H11 PG6, H12 PG5, J1 VSSA, J2 PA0, J3 PA4, J4 PC4, J5 PB2, J6 PG1, J7 PE10, J8 PE12, J9 PD10, J10 PG4, J11 PG3, J12 PG2, K1 VREF-, K2 PA1, K3 PA5, K4 PC5, K5 PF13, K6 PG0, K7 PE9, K8 PE13, K9 PD9, K10 PD13, K11 PD14, K12 PD15, L1 VREF+, L2 PA2, L3 PA6, L4 PB0, L5 PF12, L6 PF15, L7 PE8, L8 PE14, L9 PD8, L10 PD12, L11 PB14, L12 PB15, M1 VDDA, M2 PA3, M3 PA7, M4 PB1, M5 PF11, M6 PF14, M7 PE7, M8 PE15, M9 PB10, M10 PB11, M11 PB12, M12 PB13

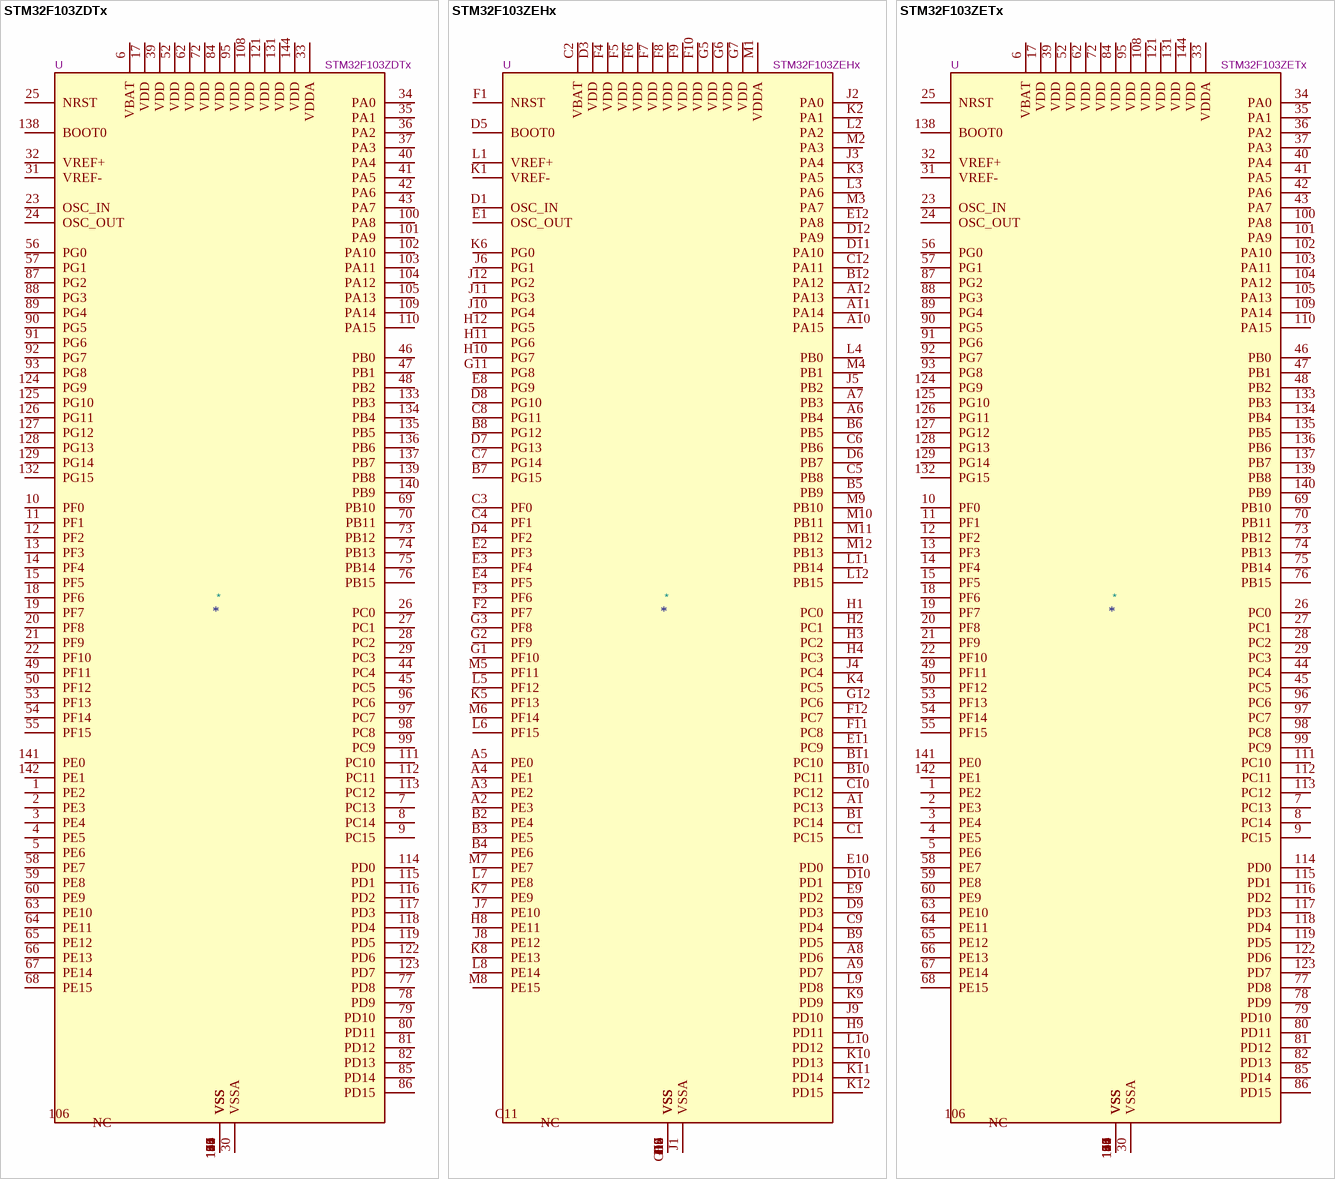
[diagram p25: symbols STM32F103ZDTx to STM32F103ZETx]

## STM32F103ZDTx
designator *  value STM32F103ZDTx  Reference: U
STMicroelectronics Arm Cortex-M3 MCU, 384KB flash, 64KB RAM, 72 MHz, 2.0-3.6V, 112 GPIO, LQFP144; ki_keywords: Arm Cortex-M3 STM32F1 STM32F103; ki_fp_filters: LQFP*20x20mm*P0.5mm*; Footprint: Package_QFP:LQFP-144_20x20mm_P0.5mm; Datasheet: https://www.st.com/resource/en/datasheet/stm32f103zd.pdf; Description_: STMicroelectronics Arm Cortex-M3 MCU, 384KB flash, 64KB RAM, 72 MHz, 2.0-3.6V, 112 GPIO, LQFP144
pins: 1 PE2, 2 PE3, 3 PE4, 4 PE5, 5 PE6, 6 VBAT, 7 PC13, 8 PC14, 9 PC15, 10 PF0, 11 PF1, 12 PF2, 13 PF3, 14 PF4, 15 PF5, 16 VSS, 17 VDD, 18 PF6, 19 PF7, 20 PF8, 21 PF9, 22 PF10, 23 OSC_IN, 24 OSC_OUT, 25 NRST, 26 PC0, 27 PC1, 28 PC2, 29 PC3, 30 VSSA, 31 VREF-, 32 VREF+, 33 VDDA, 34 PA0, 35 PA1, 36 PA2, 37 PA3, 38 VSS, 39 VDD, 40 PA4, 41 PA5, 42 PA6, 43 PA7, 44 PC4, 45 PC5, 46 PB0, 47 PB1, 48 PB2, 49 PF11, 50 PF12, 51 VSS, 52 VDD, 53 PF13, 54 PF14, 55 PF15, 56 PG0, 57 PG1, 58 PE7, 59 PE8, 60 PE9, 61 VSS, 62 VDD, 63 PE10, 64 PE11, 65 PE12, 66 PE13, 67 PE14, 68 PE15, 69 PB10, 70 PB11, 71 VSS, 72 VDD, 73 PB12, 74 PB13, 75 PB14, 76 PB15, 77 PD8, 78 PD9, 79 PD10, 80 PD11, 81 PD12, 82 PD13, 83 VSS, 84 VDD, 85 PD14, 86 PD15, 87 PG2, 88 PG3, 89 PG4, 90 PG5, 91 PG6, 92 PG7, 93 PG8, 94 VSS, 95 VDD, 96 PC6, 97 PC7, 98 PC8, 99 PC9, 100 PA8, 101 PA9, 102 PA10, 103 PA11, 104 PA12, 105 PA13, 106 NC, 107 VSS, 108 VDD, 109 PA14, 110 PA15, 111 PC10, 112 PC11, 113 PC12, 114 PD0, 115 PD1, 116 PD2, 117 PD3, 118 PD4, 119 PD5, 120 VSS, 121 VDD, 122 PD6, 123 PD7, 124 PG9, 125 PG10, 126 PG11, 127 PG12, 128 PG13, 129 PG14, 130 VSS, 131 VDD, 132 PG15, 133 PB3, 134 PB4, 135 PB5, 136 PB6, 137 PB7, 138 BOOT0, 139 PB8, 140 PB9, 141 PE0, 142 PE1, 143 VSS, 144 VDD

## STM32F103ZEHx
designator *  value STM32F103ZEHx  Reference: U
STMicroelectronics Arm Cortex-M3 MCU, 512KB flash, 64KB RAM, 72 MHz, 2.0-3.6V, 112 GPIO, LFBGA144; ki_keywords: Arm Cortex-M3 STM32F1 STM32F103; ki_fp_filters: LFBGA*10x10mm*Layout12x12*P0.8mm*; Footprint: Package_BGA:LFBGA-144_10x10mm_Layout12x12_P0.8mm; Datasheet: https://www.st.com/resource/en/datasheet/stm32f103ze.pdf; Description_: STMicroelectronics Arm Cortex-M3 MCU, 512KB flash, 64KB RAM, 72 MHz, 2.0-3.6V, 112 GPIO, LFBGA144
pins: A1 PC13, A2 PE3, A3 PE2, A4 PE1, A5 PE0, A6 PB4, A7 PB3, A8 PD6, A9 PD7, A10 PA15, A11 PA14, A12 PA13, B1 PC14, B2 PE4, B3 PE5, B4 PE6, B5 PB9, B6 PB5, B7 PG15, B8 PG12, B9 PD5, B10 PC11, B11 PC10, B12 PA12, C1 PC15, C2 VBAT, C3 PF0, C4 PF1, C5 PB8, C6 PB6, C7 PG14, C8 PG11, C9 PD4, C10 PC12, C11 NC, C12 PA11, D1 OSC_IN, D2 VSS, D3 VDD, D4 PF2, D5 BOOT0, D6 PB7, D7 PG13, D8 PG10, D9 PD3, D10 PD1, D11 PA10, D12 PA9, E1 OSC_OUT, E2 PF3, E3 PF4, E4 PF5, E5 VSS, E6 VSS, E7 VSS, E8 PG9, E9 PD2, E10 PD0, E11 PC9, E12 PA8, F1 NRST, F2 PF7, F3 PF6, F4 VDD, F5 VDD, F6 VDD, F7 VDD, F8 VDD, F9 VDD, F10 VDD, F11 PC8, F12 PC7, G1 PF10, G2 PF9, G3 PF8, G4 VSS, G5 VDD, G6 VDD, G7 VDD, G8 VSS, G9 VSS, G10 VSS, G11 PG8, G12 PC6, H1 PC0, H2 PC1, H3 PC2, H4 PC3, H5 VSS, H6 VSS, H7 VSS, H8 PE11, H9 PD11, H10 PG7, H11 PG6, H12 PG5, J1 VSSA, J2 PA0, J3 PA4, J4 PC4, J5 PB2, J6 PG1, J7 PE10, J8 PE12, J9 PD10, J10 PG4, J11 PG3, J12 PG2, K1 VREF-, K2 PA1, K3 PA5, K4 PC5, K5 PF13, K6 PG0, K7 PE9, K8 PE13, K9 PD9, K10 PD13, K11 PD14, K12 PD15, L1 VREF+, L2 PA2, L3 PA6, L4 PB0, L5 PF12, L6 PF15, L7 PE8, L8 PE14, L9 PD8, L10 PD12, L11 PB14, L12 PB15, M1 VDDA, M2 PA3, M3 PA7, M4 PB1, M5 PF11, M6 PF14, M7 PE7, M8 PE15, M9 PB10, M10 PB11, M11 PB12, M12 PB13

## STM32F103ZETx
designator *  value STM32F103ZETx  Reference: U
STMicroelectronics Arm Cortex-M3 MCU, 512KB flash, 64KB RAM, 72 MHz, 2.0-3.6V, 112 GPIO, LQFP144; ki_keywords: Arm Cortex-M3 STM32F1 STM32F103; ki_fp_filters: LQFP*20x20mm*P0.5mm*; Footprint: Package_QFP:LQFP-144_20x20mm_P0.5mm; Datasheet: https://www.st.com/resource/en/datasheet/stm32f103ze.pdf; Description_: STMicroelectronics Arm Cortex-M3 MCU, 512KB flash, 64KB RAM, 72 MHz, 2.0-3.6V, 112 GPIO, LQFP144
pins: 1 PE2, 2 PE3, 3 PE4, 4 PE5, 5 PE6, 6 VBAT, 7 PC13, 8 PC14, 9 PC15, 10 PF0, 11 PF1, 12 PF2, 13 PF3, 14 PF4, 15 PF5, 16 VSS, 17 VDD, 18 PF6, 19 PF7, 20 PF8, 21 PF9, 22 PF10, 23 OSC_IN, 24 OSC_OUT, 25 NRST, 26 PC0, 27 PC1, 28 PC2, 29 PC3, 30 VSSA, 31 VREF-, 32 VREF+, 33 VDDA, 34 PA0, 35 PA1, 36 PA2, 37 PA3, 38 VSS, 39 VDD, 40 PA4, 41 PA5, 42 PA6, 43 PA7, 44 PC4, 45 PC5, 46 PB0, 47 PB1, 48 PB2, 49 PF11, 50 PF12, 51 VSS, 52 VDD, 53 PF13, 54 PF14, 55 PF15, 56 PG0, 57 PG1, 58 PE7, 59 PE8, 60 PE9, 61 VSS, 62 VDD, 63 PE10, 64 PE11, 65 PE12, 66 PE13, 67 PE14, 68 PE15, 69 PB10, 70 PB11, 71 VSS, 72 VDD, 73 PB12, 74 PB13, 75 PB14, 76 PB15, 77 PD8, 78 PD9, 79 PD10, 80 PD11, 81 PD12, 82 PD13, 83 VSS, 84 VDD, 85 PD14, 86 PD15, 87 PG2, 88 PG3, 89 PG4, 90 PG5, 91 PG6, 92 PG7, 93 PG8, 94 VSS, 95 VDD, 96 PC6, 97 PC7, 98 PC8, 99 PC9, 100 PA8, 101 PA9, 102 PA10, 103 PA11, 104 PA12, 105 PA13, 106 NC, 107 VSS, 108 VDD, 109 PA14, 110 PA15, 111 PC10, 112 PC11, 113 PC12, 114 PD0, 115 PD1, 116 PD2, 117 PD3, 118 PD4, 119 PD5, 120 VSS, 121 VDD, 122 PD6, 123 PD7, 124 PG9, 125 PG10, 126 PG11, 127 PG12, 128 PG13, 129 PG14, 130 VSS, 131 VDD, 132 PG15, 133 PB3, 134 PB4, 135 PB5, 136 PB6, 137 PB7, 138 BOOT0, 139 PB8, 140 PB9, 141 PE0, 142 PE1, 143 VSS, 144 VDD

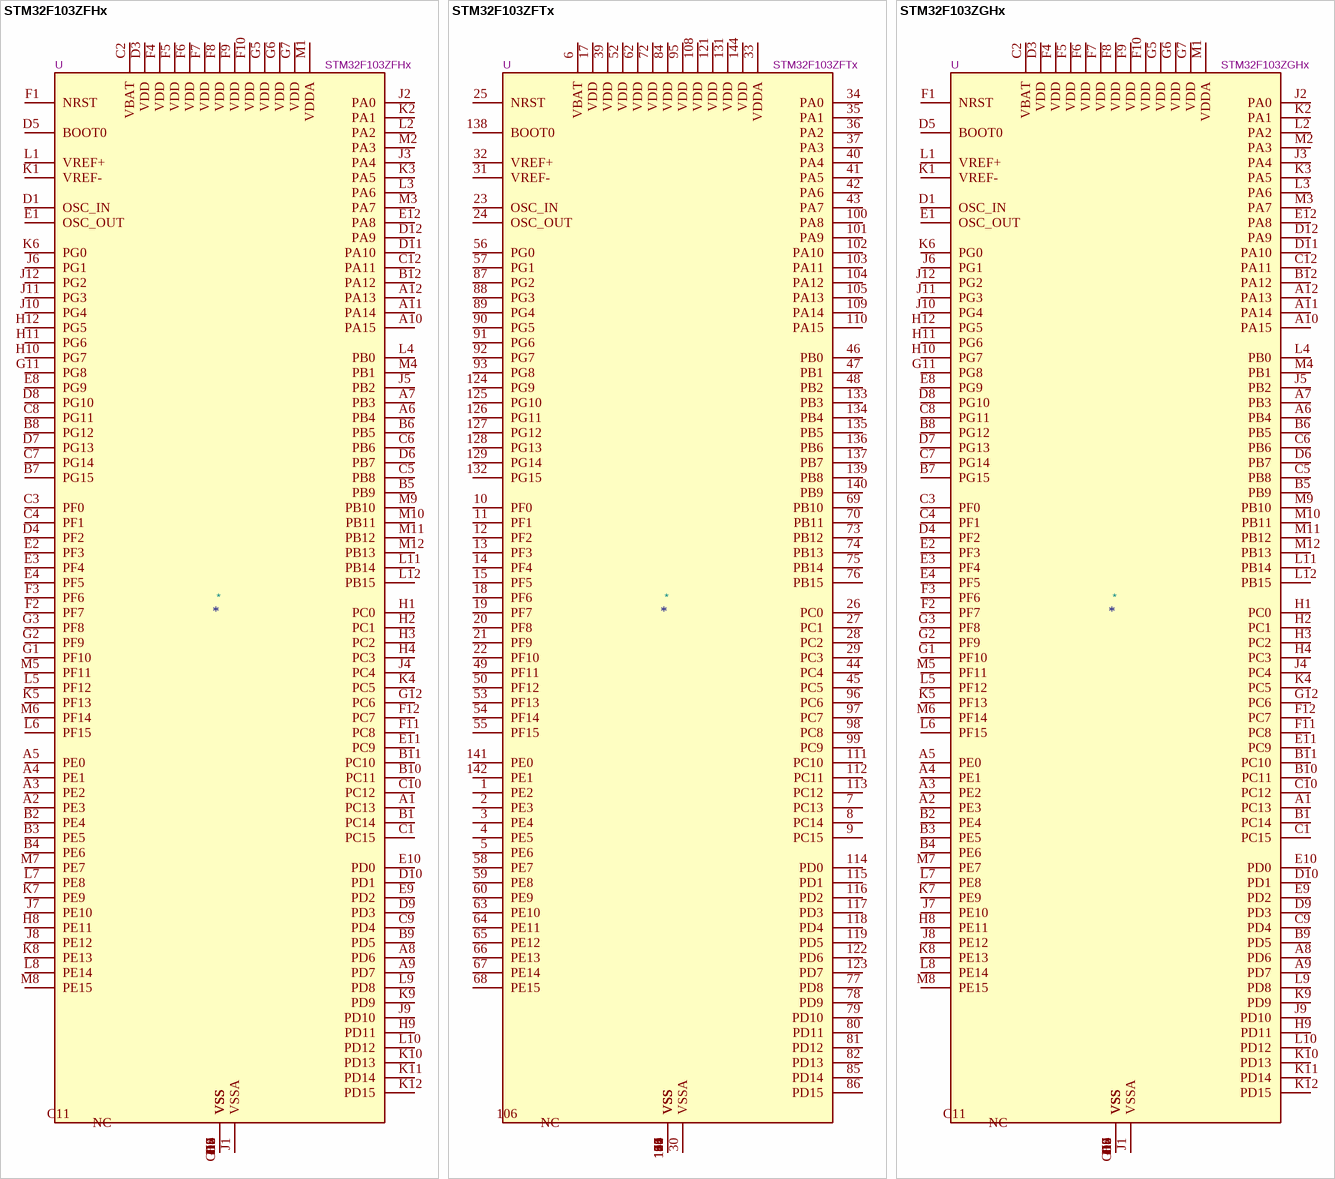
[diagram p26: symbols STM32F103ZFHx to STM32F103ZGHx]

## STM32F103ZFHx
designator *  value STM32F103ZFHx  Reference: U
STMicroelectronics Arm Cortex-M3 MCU, 768KB flash, 96KB RAM, 72 MHz, 2.0-3.6V, 112 GPIO, LFBGA144; ki_keywords: Arm Cortex-M3 STM32F1 STM32F103; ki_fp_filters: LFBGA*10x10mm*Layout12x12*P0.8mm*; Footprint: Package_BGA:LFBGA-144_10x10mm_Layout12x12_P0.8mm; Datasheet: https://www.st.com/resource/en/datasheet/stm32f103zf.pdf; Description_: STMicroelectronics Arm Cortex-M3 MCU, 768KB flash, 96KB RAM, 72 MHz, 2.0-3.6V, 112 GPIO, LFBGA144
pins: A1 PC13, A2 PE3, A3 PE2, A4 PE1, A5 PE0, A6 PB4, A7 PB3, A8 PD6, A9 PD7, A10 PA15, A11 PA14, A12 PA13, B1 PC14, B2 PE4, B3 PE5, B4 PE6, B5 PB9, B6 PB5, B7 PG15, B8 PG12, B9 PD5, B10 PC11, B11 PC10, B12 PA12, C1 PC15, C2 VBAT, C3 PF0, C4 PF1, C5 PB8, C6 PB6, C7 PG14, C8 PG11, C9 PD4, C10 PC12, C11 NC, C12 PA11, D1 OSC_IN, D2 VSS, D3 VDD, D4 PF2, D5 BOOT0, D6 PB7, D7 PG13, D8 PG10, D9 PD3, D10 PD1, D11 PA10, D12 PA9, E1 OSC_OUT, E2 PF3, E3 PF4, E4 PF5, E5 VSS, E6 VSS, E7 VSS, E8 PG9, E9 PD2, E10 PD0, E11 PC9, E12 PA8, F1 NRST, F2 PF7, F3 PF6, F4 VDD, F5 VDD, F6 VDD, F7 VDD, F8 VDD, F9 VDD, F10 VDD, F11 PC8, F12 PC7, G1 PF10, G2 PF9, G3 PF8, G4 VSS, G5 VDD, G6 VDD, G7 VDD, G8 VSS, G9 VSS, G10 VSS, G11 PG8, G12 PC6, H1 PC0, H2 PC1, H3 PC2, H4 PC3, H5 VSS, H6 VSS, H7 VSS, H8 PE11, H9 PD11, H10 PG7, H11 PG6, H12 PG5, J1 VSSA, J2 PA0, J3 PA4, J4 PC4, J5 PB2, J6 PG1, J7 PE10, J8 PE12, J9 PD10, J10 PG4, J11 PG3, J12 PG2, K1 VREF-, K2 PA1, K3 PA5, K4 PC5, K5 PF13, K6 PG0, K7 PE9, K8 PE13, K9 PD9, K10 PD13, K11 PD14, K12 PD15, L1 VREF+, L2 PA2, L3 PA6, L4 PB0, L5 PF12, L6 PF15, L7 PE8, L8 PE14, L9 PD8, L10 PD12, L11 PB14, L12 PB15, M1 VDDA, M2 PA3, M3 PA7, M4 PB1, M5 PF11, M6 PF14, M7 PE7, M8 PE15, M9 PB10, M10 PB11, M11 PB12, M12 PB13

## STM32F103ZFTx
designator *  value STM32F103ZFTx  Reference: U
STMicroelectronics Arm Cortex-M3 MCU, 768KB flash, 96KB RAM, 72 MHz, 2.0-3.6V, 112 GPIO, LQFP144; ki_keywords: Arm Cortex-M3 STM32F1 STM32F103; ki_fp_filters: LQFP*20x20mm*P0.5mm*; Footprint: Package_QFP:LQFP-144_20x20mm_P0.5mm; Datasheet: https://www.st.com/resource/en/datasheet/stm32f103zf.pdf; Description_: STMicroelectronics Arm Cortex-M3 MCU, 768KB flash, 96KB RAM, 72 MHz, 2.0-3.6V, 112 GPIO, LQFP144
pins: 1 PE2, 2 PE3, 3 PE4, 4 PE5, 5 PE6, 6 VBAT, 7 PC13, 8 PC14, 9 PC15, 10 PF0, 11 PF1, 12 PF2, 13 PF3, 14 PF4, 15 PF5, 16 VSS, 17 VDD, 18 PF6, 19 PF7, 20 PF8, 21 PF9, 22 PF10, 23 OSC_IN, 24 OSC_OUT, 25 NRST, 26 PC0, 27 PC1, 28 PC2, 29 PC3, 30 VSSA, 31 VREF-, 32 VREF+, 33 VDDA, 34 PA0, 35 PA1, 36 PA2, 37 PA3, 38 VSS, 39 VDD, 40 PA4, 41 PA5, 42 PA6, 43 PA7, 44 PC4, 45 PC5, 46 PB0, 47 PB1, 48 PB2, 49 PF11, 50 PF12, 51 VSS, 52 VDD, 53 PF13, 54 PF14, 55 PF15, 56 PG0, 57 PG1, 58 PE7, 59 PE8, 60 PE9, 61 VSS, 62 VDD, 63 PE10, 64 PE11, 65 PE12, 66 PE13, 67 PE14, 68 PE15, 69 PB10, 70 PB11, 71 VSS, 72 VDD, 73 PB12, 74 PB13, 75 PB14, 76 PB15, 77 PD8, 78 PD9, 79 PD10, 80 PD11, 81 PD12, 82 PD13, 83 VSS, 84 VDD, 85 PD14, 86 PD15, 87 PG2, 88 PG3, 89 PG4, 90 PG5, 91 PG6, 92 PG7, 93 PG8, 94 VSS, 95 VDD, 96 PC6, 97 PC7, 98 PC8, 99 PC9, 100 PA8, 101 PA9, 102 PA10, 103 PA11, 104 PA12, 105 PA13, 106 NC, 107 VSS, 108 VDD, 109 PA14, 110 PA15, 111 PC10, 112 PC11, 113 PC12, 114 PD0, 115 PD1, 116 PD2, 117 PD3, 118 PD4, 119 PD5, 120 VSS, 121 VDD, 122 PD6, 123 PD7, 124 PG9, 125 PG10, 126 PG11, 127 PG12, 128 PG13, 129 PG14, 130 VSS, 131 VDD, 132 PG15, 133 PB3, 134 PB4, 135 PB5, 136 PB6, 137 PB7, 138 BOOT0, 139 PB8, 140 PB9, 141 PE0, 142 PE1, 143 VSS, 144 VDD

## STM32F103ZGHx
designator *  value STM32F103ZGHx  Reference: U
STMicroelectronics Arm Cortex-M3 MCU, 1024KB flash, 96KB RAM, 72 MHz, 2.0-3.6V, 112 GPIO, LFBGA144; ki_keywords: Arm Cortex-M3 STM32F1 STM32F103; ki_fp_filters: LFBGA*10x10mm*Layout12x12*P0.8mm*; Footprint: Package_BGA:LFBGA-144_10x10mm_Layout12x12_P0.8mm; Datasheet: https://www.st.com/resource/en/datasheet/stm32f103zg.pdf; Description_: STMicroelectronics Arm Cortex-M3 MCU, 1024KB flash, 96KB RAM, 72 MHz, 2.0-3.6V, 112 GPIO, LFBGA144
pins: A1 PC13, A2 PE3, A3 PE2, A4 PE1, A5 PE0, A6 PB4, A7 PB3, A8 PD6, A9 PD7, A10 PA15, A11 PA14, A12 PA13, B1 PC14, B2 PE4, B3 PE5, B4 PE6, B5 PB9, B6 PB5, B7 PG15, B8 PG12, B9 PD5, B10 PC11, B11 PC10, B12 PA12, C1 PC15, C2 VBAT, C3 PF0, C4 PF1, C5 PB8, C6 PB6, C7 PG14, C8 PG11, C9 PD4, C10 PC12, C11 NC, C12 PA11, D1 OSC_IN, D2 VSS, D3 VDD, D4 PF2, D5 BOOT0, D6 PB7, D7 PG13, D8 PG10, D9 PD3, D10 PD1, D11 PA10, D12 PA9, E1 OSC_OUT, E2 PF3, E3 PF4, E4 PF5, E5 VSS, E6 VSS, E7 VSS, E8 PG9, E9 PD2, E10 PD0, E11 PC9, E12 PA8, F1 NRST, F2 PF7, F3 PF6, F4 VDD, F5 VDD, F6 VDD, F7 VDD, F8 VDD, F9 VDD, F10 VDD, F11 PC8, F12 PC7, G1 PF10, G2 PF9, G3 PF8, G4 VSS, G5 VDD, G6 VDD, G7 VDD, G8 VSS, G9 VSS, G10 VSS, G11 PG8, G12 PC6, H1 PC0, H2 PC1, H3 PC2, H4 PC3, H5 VSS, H6 VSS, H7 VSS, H8 PE11, H9 PD11, H10 PG7, H11 PG6, H12 PG5, J1 VSSA, J2 PA0, J3 PA4, J4 PC4, J5 PB2, J6 PG1, J7 PE10, J8 PE12, J9 PD10, J10 PG4, J11 PG3, J12 PG2, K1 VREF-, K2 PA1, K3 PA5, K4 PC5, K5 PF13, K6 PG0, K7 PE9, K8 PE13, K9 PD9, K10 PD13, K11 PD14, K12 PD15, L1 VREF+, L2 PA2, L3 PA6, L4 PB0, L5 PF12, L6 PF15, L7 PE8, L8 PE14, L9 PD8, L10 PD12, L11 PB14, L12 PB15, M1 VDDA, M2 PA3, M3 PA7, M4 PB1, M5 PF11, M6 PF14, M7 PE7, M8 PE15, M9 PB10, M10 PB11, M11 PB12, M12 PB13

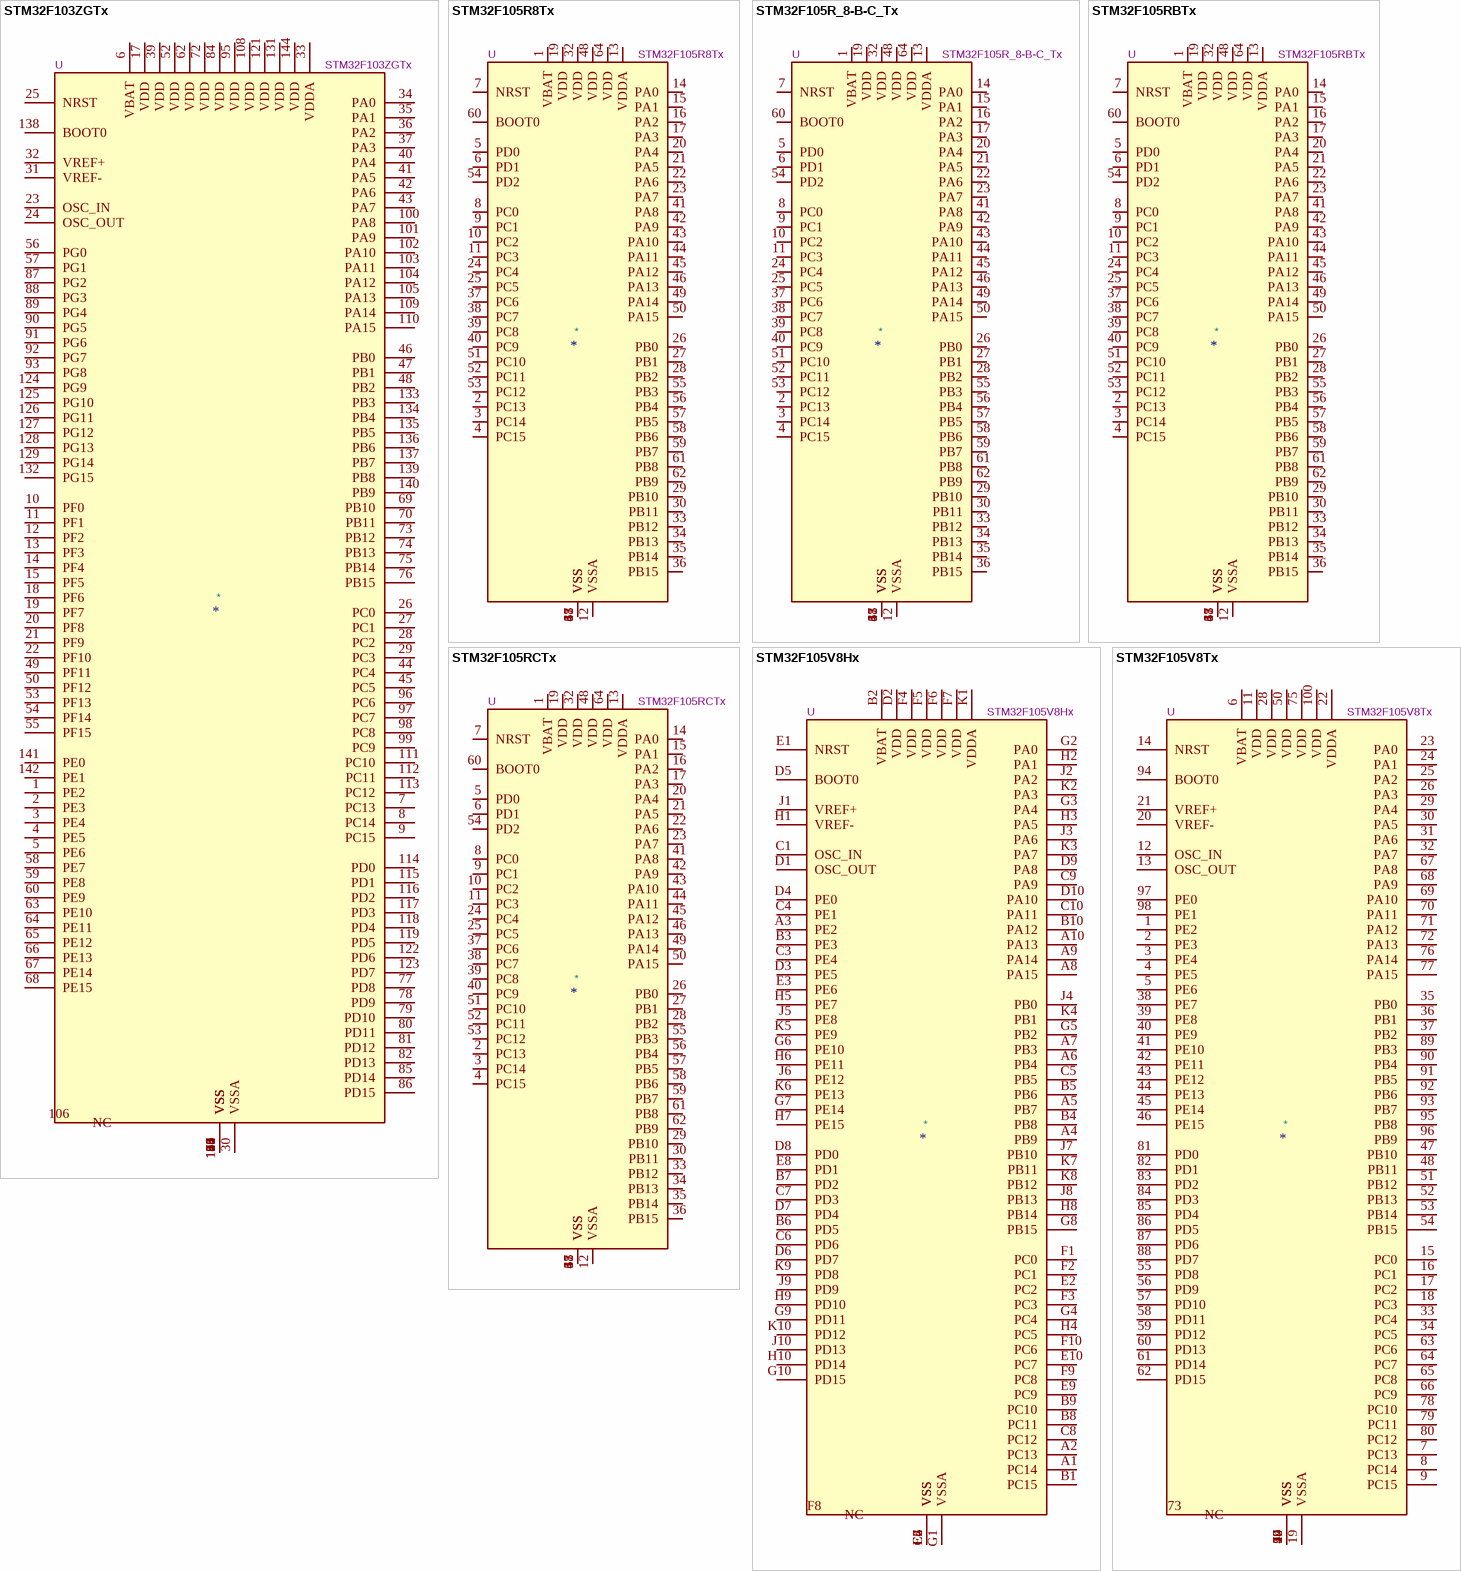
[diagram p27: symbols STM32F103ZGTx to STM32F105V8Tx]

## STM32F103ZGTx
designator *  value STM32F103ZGTx  Reference: U
STMicroelectronics Arm Cortex-M3 MCU, 1024KB flash, 96KB RAM, 72 MHz, 2.0-3.6V, 112 GPIO, LQFP144; ki_keywords: Arm Cortex-M3 STM32F1 STM32F103; ki_fp_filters: LQFP*20x20mm*P0.5mm*; Footprint: Package_QFP:LQFP-144_20x20mm_P0.5mm; Datasheet: https://www.st.com/resource/en/datasheet/stm32f103zg.pdf; Description_: STMicroelectronics Arm Cortex-M3 MCU, 1024KB flash, 96KB RAM, 72 MHz, 2.0-3.6V, 112 GPIO, LQFP144
pins: 1 PE2, 2 PE3, 3 PE4, 4 PE5, 5 PE6, 6 VBAT, 7 PC13, 8 PC14, 9 PC15, 10 PF0, 11 PF1, 12 PF2, 13 PF3, 14 PF4, 15 PF5, 16 VSS, 17 VDD, 18 PF6, 19 PF7, 20 PF8, 21 PF9, 22 PF10, 23 OSC_IN, 24 OSC_OUT, 25 NRST, 26 PC0, 27 PC1, 28 PC2, 29 PC3, 30 VSSA, 31 VREF-, 32 VREF+, 33 VDDA, 34 PA0, 35 PA1, 36 PA2, 37 PA3, 38 VSS, 39 VDD, 40 PA4, 41 PA5, 42 PA6, 43 PA7, 44 PC4, 45 PC5, 46 PB0, 47 PB1, 48 PB2, 49 PF11, 50 PF12, 51 VSS, 52 VDD, 53 PF13, 54 PF14, 55 PF15, 56 PG0, 57 PG1, 58 PE7, 59 PE8, 60 PE9, 61 VSS, 62 VDD, 63 PE10, 64 PE11, 65 PE12, 66 PE13, 67 PE14, 68 PE15, 69 PB10, 70 PB11, 71 VSS, 72 VDD, 73 PB12, 74 PB13, 75 PB14, 76 PB15, 77 PD8, 78 PD9, 79 PD10, 80 PD11, 81 PD12, 82 PD13, 83 VSS, 84 VDD, 85 PD14, 86 PD15, 87 PG2, 88 PG3, 89 PG4, 90 PG5, 91 PG6, 92 PG7, 93 PG8, 94 VSS, 95 VDD, 96 PC6, 97 PC7, 98 PC8, 99 PC9, 100 PA8, 101 PA9, 102 PA10, 103 PA11, 104 PA12, 105 PA13, 106 NC, 107 VSS, 108 VDD, 109 PA14, 110 PA15, 111 PC10, 112 PC11, 113 PC12, 114 PD0, 115 PD1, 116 PD2, 117 PD3, 118 PD4, 119 PD5, 120 VSS, 121 VDD, 122 PD6, 123 PD7, 124 PG9, 125 PG10, 126 PG11, 127 PG12, 128 PG13, 129 PG14, 130 VSS, 131 VDD, 132 PG15, 133 PB3, 134 PB4, 135 PB5, 136 PB6, 137 PB7, 138 BOOT0, 139 PB8, 140 PB9, 141 PE0, 142 PE1, 143 VSS, 144 VDD

## STM32F105R8Tx
designator *  value STM32F105R8Tx  Reference: U
STMicroelectronics Arm Cortex-M3 MCU, 64KB flash, 64KB RAM, 72 MHz, 2.0-3.6V, 51 GPIO, LQFP64; ki_keywords: Arm Cortex-M3 STM32F1 STM32F105/107; ki_fp_filters: LQFP*10x10mm*P0.5mm*; Footprint: Package_QFP:LQFP-64_10x10mm_P0.5mm; Datasheet: https://www.st.com/resource/en/datasheet/stm32f105r8.pdf; Description_: STMicroelectronics Arm Cortex-M3 MCU, 64KB flash, 64KB RAM, 72 MHz, 2.0-3.6V, 51 GPIO, LQFP64
pins: 1 VBAT, 2 PC13, 3 PC14, 4 PC15, 5 PD0, 6 PD1, 7 NRST, 8 PC0, 9 PC1, 10 PC2, 11 PC3, 12 VSSA, 13 VDDA, 14 PA0, 15 PA1, 16 PA2, 17 PA3, 18 VSS, 19 VDD, 20 PA4, 21 PA5, 22 PA6, 23 PA7, 24 PC4, 25 PC5, 26 PB0, 27 PB1, 28 PB2, 29 PB10, 30 PB11, 31 VSS, 32 VDD, 33 PB12, 34 PB13, 35 PB14, 36 PB15, 37 PC6, 38 PC7, 39 PC8, 40 PC9, 41 PA8, 42 PA9, 43 PA10, 44 PA11, 45 PA12, 46 PA13, 47 VSS, 48 VDD, 49 PA14, 50 PA15, 51 PC10, 52 PC11, 53 PC12, 54 PD2, 55 PB3, 56 PB4, 57 PB5, 58 PB6, 59 PB7, 60 BOOT0, 61 PB8, 62 PB9, 63 VSS, 64 VDD

## STM32F105R_8-B-C_Tx
designator *  value STM32F105R_8-B-C_Tx  Reference: U
STMicroelectronics Arm Cortex-M3 MCU, 64-256KB flash, 64KB RAM, 72 MHz, 2.0-3.6V, 51 GPIO, LQFP64; ki_keywords: Arm Cortex-M3 STM32F1 STM32F105/107; ki_fp_filters: LQFP*10x10mm*P0.5mm*; Footprint: Package_QFP:LQFP-64_10x10mm_P0.5mm; Datasheet: https://www.st.com/resource/en/datasheet/stm32f105r8.pdf; Description_: STMicroelectronics Arm Cortex-M3 MCU, 64-256KB flash, 64KB RAM, 72 MHz, 2.0-3.6V, 51 GPIO, LQFP64
pins: 1 VBAT, 2 PC13, 3 PC14, 4 PC15, 5 PD0, 6 PD1, 7 NRST, 8 PC0, 9 PC1, 10 PC2, 11 PC3, 12 VSSA, 13 VDDA, 14 PA0, 15 PA1, 16 PA2, 17 PA3, 18 VSS, 19 VDD, 20 PA4, 21 PA5, 22 PA6, 23 PA7, 24 PC4, 25 PC5, 26 PB0, 27 PB1, 28 PB2, 29 PB10, 30 PB11, 31 VSS, 32 VDD, 33 PB12, 34 PB13, 35 PB14, 36 PB15, 37 PC6, 38 PC7, 39 PC8, 40 PC9, 41 PA8, 42 PA9, 43 PA10, 44 PA11, 45 PA12, 46 PA13, 47 VSS, 48 VDD, 49 PA14, 50 PA15, 51 PC10, 52 PC11, 53 PC12, 54 PD2, 55 PB3, 56 PB4, 57 PB5, 58 PB6, 59 PB7, 60 BOOT0, 61 PB8, 62 PB9, 63 VSS, 64 VDD

## STM32F105RBTx
designator *  value STM32F105RBTx  Reference: U
STMicroelectronics Arm Cortex-M3 MCU, 128KB flash, 64KB RAM, 72 MHz, 2.0-3.6V, 51 GPIO, LQFP64; ki_keywords: Arm Cortex-M3 STM32F1 STM32F105/107; ki_fp_filters: LQFP*10x10mm*P0.5mm*; Footprint: Package_QFP:LQFP-64_10x10mm_P0.5mm; Datasheet: https://www.st.com/resource/en/datasheet/stm32f105rb.pdf; Description_: STMicroelectronics Arm Cortex-M3 MCU, 128KB flash, 64KB RAM, 72 MHz, 2.0-3.6V, 51 GPIO, LQFP64
pins: 1 VBAT, 2 PC13, 3 PC14, 4 PC15, 5 PD0, 6 PD1, 7 NRST, 8 PC0, 9 PC1, 10 PC2, 11 PC3, 12 VSSA, 13 VDDA, 14 PA0, 15 PA1, 16 PA2, 17 PA3, 18 VSS, 19 VDD, 20 PA4, 21 PA5, 22 PA6, 23 PA7, 24 PC4, 25 PC5, 26 PB0, 27 PB1, 28 PB2, 29 PB10, 30 PB11, 31 VSS, 32 VDD, 33 PB12, 34 PB13, 35 PB14, 36 PB15, 37 PC6, 38 PC7, 39 PC8, 40 PC9, 41 PA8, 42 PA9, 43 PA10, 44 PA11, 45 PA12, 46 PA13, 47 VSS, 48 VDD, 49 PA14, 50 PA15, 51 PC10, 52 PC11, 53 PC12, 54 PD2, 55 PB3, 56 PB4, 57 PB5, 58 PB6, 59 PB7, 60 BOOT0, 61 PB8, 62 PB9, 63 VSS, 64 VDD

## STM32F105RCTx
designator *  value STM32F105RCTx  Reference: U
STMicroelectronics Arm Cortex-M3 MCU, 256KB flash, 64KB RAM, 72 MHz, 2.0-3.6V, 51 GPIO, LQFP64; ki_keywords: Arm Cortex-M3 STM32F1 STM32F105/107; ki_fp_filters: LQFP*10x10mm*P0.5mm*; Footprint: Package_QFP:LQFP-64_10x10mm_P0.5mm; Datasheet: https://www.st.com/resource/en/datasheet/stm32f105rc.pdf; Description_: STMicroelectronics Arm Cortex-M3 MCU, 256KB flash, 64KB RAM, 72 MHz, 2.0-3.6V, 51 GPIO, LQFP64
pins: 1 VBAT, 2 PC13, 3 PC14, 4 PC15, 5 PD0, 6 PD1, 7 NRST, 8 PC0, 9 PC1, 10 PC2, 11 PC3, 12 VSSA, 13 VDDA, 14 PA0, 15 PA1, 16 PA2, 17 PA3, 18 VSS, 19 VDD, 20 PA4, 21 PA5, 22 PA6, 23 PA7, 24 PC4, 25 PC5, 26 PB0, 27 PB1, 28 PB2, 29 PB10, 30 PB11, 31 VSS, 32 VDD, 33 PB12, 34 PB13, 35 PB14, 36 PB15, 37 PC6, 38 PC7, 39 PC8, 40 PC9, 41 PA8, 42 PA9, 43 PA10, 44 PA11, 45 PA12, 46 PA13, 47 VSS, 48 VDD, 49 PA14, 50 PA15, 51 PC10, 52 PC11, 53 PC12, 54 PD2, 55 PB3, 56 PB4, 57 PB5, 58 PB6, 59 PB7, 60 BOOT0, 61 PB8, 62 PB9, 63 VSS, 64 VDD

## STM32F105V8Hx
designator *  value STM32F105V8Hx  Reference: U
STMicroelectronics Arm Cortex-M3 MCU, 64KB flash, 64KB RAM, 72 MHz, 2.0-3.6V, 80 GPIO, LFBGA100; ki_keywords: Arm Cortex-M3 STM32F1 STM32F105/107; ki_fp_filters: LFBGA*10x10mm*Layout10x10*P0.8mm*; Footprint: Package_BGA:LFBGA-100_10x10mm_Layout10x10_P0.8mm; Datasheet: https://www.st.com/resource/en/datasheet/stm32f105v8.pdf; Description_: STMicroelectronics Arm Cortex-M3 MCU, 64KB flash, 64KB RAM, 72 MHz, 2.0-3.6V, 80 GPIO, LFBGA100
pins: A1 PC14, A2 PC13, A3 PE2, A4 PB9, A5 PB7, A6 PB4, A7 PB3, A8 PA15, A9 PA14, A10 PA13, B1 PC15, B2 VBAT, B3 PE3, B4 PB8, B5 PB6, B6 PD5, B7 PD2, B8 PC11, B9 PC10, B10 PA12, C1 OSC_IN, C2 VSS, C3 PE4, C4 PE1, C5 PB5, C6 PD6, C7 PD3, C8 PC12, C9 PA9, C10 PA11, D1 OSC_OUT, D2 VDD, D3 PE5, D4 PE0, D5 BOOT0, D6 PD7, D7 PD4, D8 PD0, D9 PA8, D10 PA10, E1 NRST, E2 PC2, E3 PE6, E4 VSS, E5 VSS, E6 VSS, E7 VSS, E8 PD1, E9 PC9, E10 PC7, F1 PC0, F2 PC1, F3 PC3, F4 VDD, F5 VDD, F6 VDD, F7 VDD, F8 NC, F9 PC8, F10 PC6, G1 VSSA, G2 PA0, G3 PA4, G4 PC4, G5 PB2, G6 PE10, G7 PE14, G8 PB15, G9 PD11, G10 PD15, H1 VREF-, H2 PA1, H3 PA5, H4 PC5, H5 PE7, H6 PE11, H7 PE15, H8 PB14, H9 PD10, H10 PD14, J1 VREF+, J2 PA2, J3 PA6, J4 PB0, J5 PE8, J6 PE12, J7 PB10, J8 PB13, J9 PD9, J10 PD13, K1 VDDA, K2 PA3, K3 PA7, K4 PB1, K5 PE9, K6 PE13, K7 PB11, K8 PB12, K9 PD8, K10 PD12

## STM32F105V8Tx
designator *  value STM32F105V8Tx  Reference: U
STMicroelectronics Arm Cortex-M3 MCU, 64KB flash, 64KB RAM, 72 MHz, 2.0-3.6V, 80 GPIO, LQFP100; ki_keywords: Arm Cortex-M3 STM32F1 STM32F105/107; ki_fp_filters: LQFP*14x14mm*P0.5mm*; Footprint: Package_QFP:LQFP-100_14x14mm_P0.5mm; Datasheet: https://www.st.com/resource/en/datasheet/stm32f105v8.pdf; Description_: STMicroelectronics Arm Cortex-M3 MCU, 64KB flash, 64KB RAM, 72 MHz, 2.0-3.6V, 80 GPIO, LQFP100
pins: 1 PE2, 2 PE3, 3 PE4, 4 PE5, 5 PE6, 6 VBAT, 7 PC13, 8 PC14, 9 PC15, 10 VSS, 11 VDD, 12 OSC_IN, 13 OSC_OUT, 14 NRST, 15 PC0, 16 PC1, 17 PC2, 18 PC3, 19 VSSA, 20 VREF-, 21 VREF+, 22 VDDA, 23 PA0, 24 PA1, 25 PA2, 26 PA3, 27 VSS, 28 VDD, 29 PA4, 30 PA5, 31 PA6, 32 PA7, 33 PC4, 34 PC5, 35 PB0, 36 PB1, 37 PB2, 38 PE7, 39 PE8, 40 PE9, 41 PE10, 42 PE11, 43 PE12, 44 PE13, 45 PE14, 46 PE15, 47 PB10, 48 PB11, 49 VSS, 50 VDD, 51 PB12, 52 PB13, 53 PB14, 54 PB15, 55 PD8, 56 PD9, 57 PD10, 58 PD11, 59 PD12, 60 PD13, 61 PD14, 62 PD15, 63 PC6, 64 PC7, 65 PC8, 66 PC9, 67 PA8, 68 PA9, 69 PA10, 70 PA11, 71 PA12, 72 PA13, 73 NC, 74 VSS, 75 VDD, 76 PA14, 77 PA15, 78 PC10, 79 PC11, 80 PC12, 81 PD0, 82 PD1, 83 PD2, 84 PD3, 85 PD4, 86 PD5, 87 PD6, 88 PD7, 89 PB3, 90 PB4, 91 PB5, 92 PB6, 93 PB7, 94 BOOT0, 95 PB8, 96 PB9, 97 PE0, 98 PE1, 99 VSS, 100 VDD

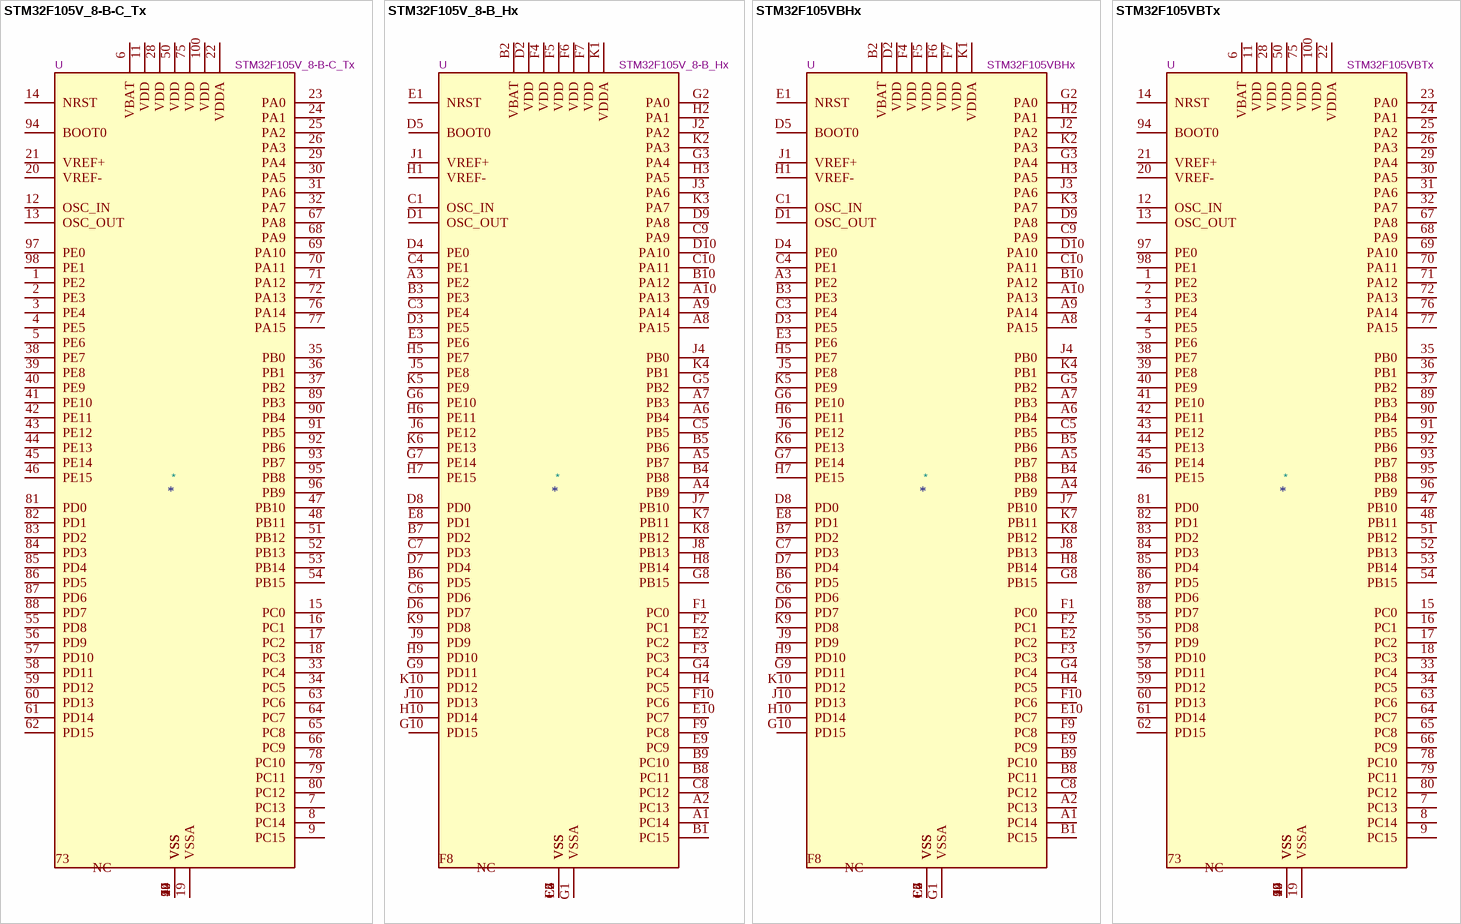
[diagram p28: symbols STM32F105V_8-B-C_Tx to STM32F105VBTx]

## STM32F105V_8-B-C_Tx
designator *  value STM32F105V_8-B-C_Tx  Reference: U
STMicroelectronics Arm Cortex-M3 MCU, 64-256KB flash, 64KB RAM, 72 MHz, 2.0-3.6V, 80 GPIO, LQFP100; ki_keywords: Arm Cortex-M3 STM32F1 STM32F105/107; ki_fp_filters: LQFP*14x14mm*P0.5mm*; Footprint: Package_QFP:LQFP-100_14x14mm_P0.5mm; Datasheet: https://www.st.com/resource/en/datasheet/stm32f105v8.pdf; Description_: STMicroelectronics Arm Cortex-M3 MCU, 64-256KB flash, 64KB RAM, 72 MHz, 2.0-3.6V, 80 GPIO, LQFP100
pins: 1 PE2, 2 PE3, 3 PE4, 4 PE5, 5 PE6, 6 VBAT, 7 PC13, 8 PC14, 9 PC15, 10 VSS, 11 VDD, 12 OSC_IN, 13 OSC_OUT, 14 NRST, 15 PC0, 16 PC1, 17 PC2, 18 PC3, 19 VSSA, 20 VREF-, 21 VREF+, 22 VDDA, 23 PA0, 24 PA1, 25 PA2, 26 PA3, 27 VSS, 28 VDD, 29 PA4, 30 PA5, 31 PA6, 32 PA7, 33 PC4, 34 PC5, 35 PB0, 36 PB1, 37 PB2, 38 PE7, 39 PE8, 40 PE9, 41 PE10, 42 PE11, 43 PE12, 44 PE13, 45 PE14, 46 PE15, 47 PB10, 48 PB11, 49 VSS, 50 VDD, 51 PB12, 52 PB13, 53 PB14, 54 PB15, 55 PD8, 56 PD9, 57 PD10, 58 PD11, 59 PD12, 60 PD13, 61 PD14, 62 PD15, 63 PC6, 64 PC7, 65 PC8, 66 PC9, 67 PA8, 68 PA9, 69 PA10, 70 PA11, 71 PA12, 72 PA13, 73 NC, 74 VSS, 75 VDD, 76 PA14, 77 PA15, 78 PC10, 79 PC11, 80 PC12, 81 PD0, 82 PD1, 83 PD2, 84 PD3, 85 PD4, 86 PD5, 87 PD6, 88 PD7, 89 PB3, 90 PB4, 91 PB5, 92 PB6, 93 PB7, 94 BOOT0, 95 PB8, 96 PB9, 97 PE0, 98 PE1, 99 VSS, 100 VDD

## STM32F105V_8-B_Hx
designator *  value STM32F105V_8-B_Hx  Reference: U
STMicroelectronics Arm Cortex-M3 MCU, 64-128KB flash, 64KB RAM, 72 MHz, 2.0-3.6V, 80 GPIO, LFBGA100; ki_keywords: Arm Cortex-M3 STM32F1 STM32F105/107; ki_fp_filters: LFBGA*10x10mm*Layout10x10*P0.8mm*; Footprint: Package_BGA:LFBGA-100_10x10mm_Layout10x10_P0.8mm; Datasheet: https://www.st.com/resource/en/datasheet/stm32f105v8.pdf; Description_: STMicroelectronics Arm Cortex-M3 MCU, 64-128KB flash, 64KB RAM, 72 MHz, 2.0-3.6V, 80 GPIO, LFBGA100
pins: A1 PC14, A2 PC13, A3 PE2, A4 PB9, A5 PB7, A6 PB4, A7 PB3, A8 PA15, A9 PA14, A10 PA13, B1 PC15, B2 VBAT, B3 PE3, B4 PB8, B5 PB6, B6 PD5, B7 PD2, B8 PC11, B9 PC10, B10 PA12, C1 OSC_IN, C2 VSS, C3 PE4, C4 PE1, C5 PB5, C6 PD6, C7 PD3, C8 PC12, C9 PA9, C10 PA11, D1 OSC_OUT, D2 VDD, D3 PE5, D4 PE0, D5 BOOT0, D6 PD7, D7 PD4, D8 PD0, D9 PA8, D10 PA10, E1 NRST, E2 PC2, E3 PE6, E4 VSS, E5 VSS, E6 VSS, E7 VSS, E8 PD1, E9 PC9, E10 PC7, F1 PC0, F2 PC1, F3 PC3, F4 VDD, F5 VDD, F6 VDD, F7 VDD, F8 NC, F9 PC8, F10 PC6, G1 VSSA, G2 PA0, G3 PA4, G4 PC4, G5 PB2, G6 PE10, G7 PE14, G8 PB15, G9 PD11, G10 PD15, H1 VREF-, H2 PA1, H3 PA5, H4 PC5, H5 PE7, H6 PE11, H7 PE15, H8 PB14, H9 PD10, H10 PD14, J1 VREF+, J2 PA2, J3 PA6, J4 PB0, J5 PE8, J6 PE12, J7 PB10, J8 PB13, J9 PD9, J10 PD13, K1 VDDA, K2 PA3, K3 PA7, K4 PB1, K5 PE9, K6 PE13, K7 PB11, K8 PB12, K9 PD8, K10 PD12

## STM32F105VBHx
designator *  value STM32F105VBHx  Reference: U
STMicroelectronics Arm Cortex-M3 MCU, 128KB flash, 64KB RAM, 72 MHz, 2.0-3.6V, 80 GPIO, LFBGA100; ki_keywords: Arm Cortex-M3 STM32F1 STM32F105/107; ki_fp_filters: LFBGA*10x10mm*Layout10x10*P0.8mm*; Footprint: Package_BGA:LFBGA-100_10x10mm_Layout10x10_P0.8mm; Datasheet: https://www.st.com/resource/en/datasheet/stm32f105vb.pdf; Description_: STMicroelectronics Arm Cortex-M3 MCU, 128KB flash, 64KB RAM, 72 MHz, 2.0-3.6V, 80 GPIO, LFBGA100
pins: A1 PC14, A2 PC13, A3 PE2, A4 PB9, A5 PB7, A6 PB4, A7 PB3, A8 PA15, A9 PA14, A10 PA13, B1 PC15, B2 VBAT, B3 PE3, B4 PB8, B5 PB6, B6 PD5, B7 PD2, B8 PC11, B9 PC10, B10 PA12, C1 OSC_IN, C2 VSS, C3 PE4, C4 PE1, C5 PB5, C6 PD6, C7 PD3, C8 PC12, C9 PA9, C10 PA11, D1 OSC_OUT, D2 VDD, D3 PE5, D4 PE0, D5 BOOT0, D6 PD7, D7 PD4, D8 PD0, D9 PA8, D10 PA10, E1 NRST, E2 PC2, E3 PE6, E4 VSS, E5 VSS, E6 VSS, E7 VSS, E8 PD1, E9 PC9, E10 PC7, F1 PC0, F2 PC1, F3 PC3, F4 VDD, F5 VDD, F6 VDD, F7 VDD, F8 NC, F9 PC8, F10 PC6, G1 VSSA, G2 PA0, G3 PA4, G4 PC4, G5 PB2, G6 PE10, G7 PE14, G8 PB15, G9 PD11, G10 PD15, H1 VREF-, H2 PA1, H3 PA5, H4 PC5, H5 PE7, H6 PE11, H7 PE15, H8 PB14, H9 PD10, H10 PD14, J1 VREF+, J2 PA2, J3 PA6, J4 PB0, J5 PE8, J6 PE12, J7 PB10, J8 PB13, J9 PD9, J10 PD13, K1 VDDA, K2 PA3, K3 PA7, K4 PB1, K5 PE9, K6 PE13, K7 PB11, K8 PB12, K9 PD8, K10 PD12